# Altium schematic symbol library LimeMicroAltiumLib_schLib.SchLib: 177 symbols (part 6 of 8)
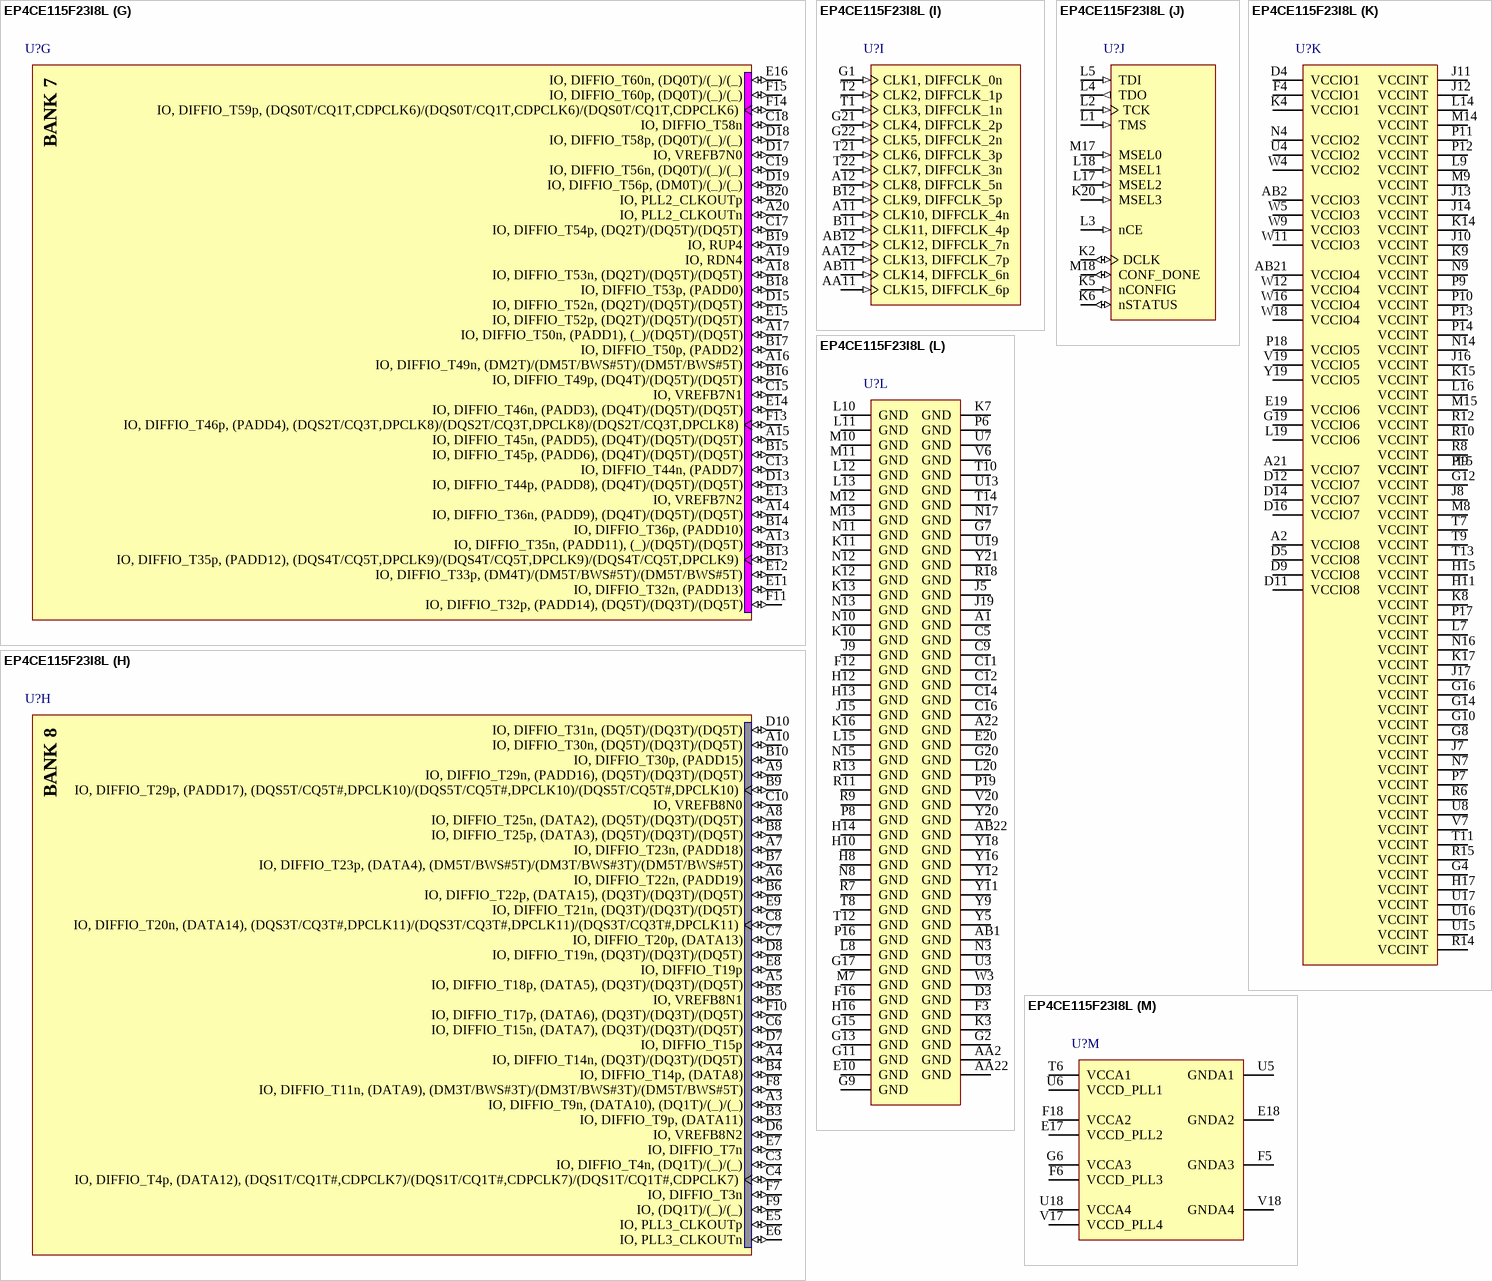
[diagram p40: symbol EP4CE115F23I8L]

## EP4CE115F23I8L
designator U?
Cyclone IV Family FPGA, 1V Core, 280 I/O Pins, 4 PLLs, 484-Pin FBGA, Speed Grade 8, Industrial Grade; Manufacturer: Altera; DatasheetVersion: ver1.6, Nov-2011; PackageVersion: ver1.0, Jun-2011; PackageReference: FBGA484_A-240; PackageDescription: 484-Pin FineLine Ball Grid Array (FBGA) - Wire Bond - A:2.40; Code_JEDEC: MS-034-AAJ-1; ComponentLink1Description: Manufacturer URL; ComponentLink1URL: http://www.altera.com/; ComponentLink2Description: Handbook; ComponentLink2URL: http://www.altera.com/literature/hb/cyclone-iv/cyclone4-handbook.pdf; ComponentLink3Description: Pinout; ComponentLink3URL: http://www.altera.com/literature/lit-dp.jsp?category=cyc%204&showspreadsheet=y; ComponentLink4Description: Package Specification; ComponentLink4URL: http://www.altera.com/devicepackaging/04R00247-02.pdf
footprint ALTR-FBGA484_A-200 (BGA, 484-Balls, Body 23x23mm, Pitch 1mm)
part A pins: B1 IO, DIFFIO_L2n, (DQ2L)/(DQ1L)/(DQ1L) (io), B2 IO, DIFFIO_L2p, (DQ2L)/(DQ1L)/(DQ1L) (io), C1 IO, DIFFIO_L4n, (DQ2L)/(DQ1L)/(DQ1L) (io), C2 IO, DIFFIO_L4p, (DQS2L/CQ3L,CDPCLK0)/(DQS2L/CQ3L,CDPCLK0)/(DQS2L/CQ3L,CDPCLK0) (io), D1 IO, DIFFIO_L5n, (DATA1,ASDO) (io), D2 IO, DIFFIO_L5p, (DQ2L)/(DQ1L)/(DQ1L) (io), E1 IO, DIFFIO_L8n, (_)/(DQ1L)/(DQ1L) (io), E2 IO, DIFFIO_L8p, (FLASH_nCE,nCSO) (io), E3 IO, DIFFIO_L3n, (DQ2L)/(DQ1L)/(DQ1L) (io), E4 IO, DIFFIO_L3p, (nRESET), (DQ2L)/(DQ1L)/(DQ1L) (io), F1 IO, DIFFIO_L9n, (DQ0L)/(DQ1L)/(DQ1L) (io), F2 IO, DIFFIO_L9p, (DM2L)/(DM1L/BWS#1L)/(DM1L/BWS#1L) (io), G3 IO, DIFFIO_L1n, (DQ2L)/(DQ1L)/(DQ1L) (io), G5 IO, VREFB1N0 (io), H1 IO, DIFFIO_L13n (io), H2 IO, DIFFIO_L13p (io), H3 IO, DIFFIO_L7n (io), H4 IO (io), H5 IO, VREFB1N1 (io), H6 IO, DIFFIO_L6p, (DQ2L)/(DQ1L)/(DQ1L) (io), H7 IO, DIFFIO_L1p (io), J1 IO, DIFFIO_L23n, (DQ0L)/(DQ1L)/(DQ1L) (io), J2 IO, DIFFIO_L23p (io), J3 IO, VREFB1N2 (io), J4 IO, DIFFIO_L12p, (DQS0L/CQ1L,DPCLK0)/(DQS0L/CQ1L,DPCLK0)/(DQS0L/CQ1L,DPCLK0) (io), J6 IO, DIFFIO_L6n (io), K1 IO, (DATA0) (io)
part B pins: AA1 IO, DIFFIO_L40n (io), L6 IO, DIFFIO_L25p, (DQ0L)/(DQ1L)/(DQ1L) (io), M1 IO, DIFFIO_L27n (io), M2 IO, DIFFIO_L27p, (DM0L)/(DM1L/BWS#1L)/(DM1L/BWS#1L) (io), M3 IO, DIFFIO_L28n, (DQ1L)/(DQ3L)/(DQ1L) (io), M4 IO, DIFFIO_L28p, (DQ1L)/(DQ3L)/(DQ1L) (io), M5 IO, VREFB2N0 (io), M6 IO, DIFFIO_L25n, (_)/(DQ1L)/(DQ1L) (io), N1 IO, DIFFIO_L29n (io), N2 IO, DIFFIO_L29p, (DQ1L)/(DQ3L)/(DQ1L) (io), N5 IO, DIFFIO_L32n, (DQ1L)/(DQ3L)/(DQ1L) (io), N6 IO, DIFFIO_L36n (io), P1 IO, DIFFIO_L30n, (DQ1L)/(DQ3L)/(DQ1L) (io), P2 IO, DIFFIO_L30p (io), P3 IO, DIFFIO_L33n (io), P4 IO, DIFFIO_L33p, (DQS1L/CQ1L#,DPCLK1)/(DQS1L/CQ1L#,DPCLK1)/(DQS1L/CQ1L#,DPCLK1) (io), P5 IO, DIFFIO_L36p, (DQ3L)/(DQ3L)/(DQ1L) (io), R1 IO, DIFFIO_L31n (io), R2 IO, DIFFIO_L31p, (DQ1L)/(DQ3L)/(DQ1L) (io), R3 IO, DIFFIO_L37n, (DQ3L)/(DQ3L)/(DQ1L) (io), R4 IO, DIFFIO_L37p, (DQ3L)/(DQ3L)/(DQ1L) (io), R5 IO, VREFB2N2 (io), T3 IO, VREFB2N1 (io), T4 IO, DIFFIO_L48p, (DQS3L/CQ3L#,CDPCLK1)/(DQS3L/CQ3L#,CDPCLK1)/(DQS3L/CQ3L#,CDPCLK1) (io), T5 IO, DIFFIO_L48n, (DM3L/BWS#3L)/(DM3L/BWS#3L)/(DM1L/BWS#1L) (io), U1 IO, DIFFIO_L34n, (DM1L/BWS#1L)/(DM3L/BWS#3L)/(DM1L/BWS#1L) (io), U2 IO, DIFFIO_L34p, (DQ1L)/(DQ3L)/(DQ1L) (io), V1 IO, DIFFIO_L35n (io), V2 IO, DIFFIO_L35p, (DQ3L)/(DQ3L)/(DQ1L) (io), V3 IO, RDN1 (io), V4 IO, RUP1 (io), W1 IO, DIFFIO_L38n (io), W2 IO, DIFFIO_L38p, (DQ3L)/(DQ3L)/(DQ1L) (io), Y1 IO, DIFFIO_L39n (io), Y2 IO, DIFFIO_L39p, (DQ3L)/(DQ3L)/(DQ1L) (io)
part C pins: AA3 IO, PLL_1CLKOUTp (io), AA4 IO, (DQ1B)/(_)/(_) (io), AA5 IO, DIFFIO_B5p (io), AA6 IO, DIFFIO_B7n, (DQ1B)/(_)/(_) (io), AA7 IO, DIFFIO_B14p (io), AA8 IO, DIFFIO_B17p, (DQ5B)/(DQ3B)/(DQ5B) (io), AA9 IO, DIFFIO_B18p, (DQ5B)/(DQ3B)/(DQ5B) (io), AA10 IO, DIFFIO_B24p (io), AB3 IO, PLL_1CLKOUTn (io), AB4 IO, VREFB3N2 (io), AB5 IO, DIFFIO_B8n (io), AB6 IO, DIFFIO_B8p, (DM3B/BWS#3B)/(DM3B/BWS#3B)/(DM5B/BWS#5B) (io), AB7 IO, DIFFIO_B14n, (DM5B/BWS#5B)/(DM3B/BWS#3B)/(DM5B/BWS#5B) (io), AB8 IO, DIFFIO_B17n (io), AB9 IO, DIFFIO_B18n, (DQS5B/CQ5B#,DPCLK3)/(DQS5B/CQ5B#,DPCLK3)/(DQS5B/CQ5B#,DPCLK3) (io), AB10 IO, DIFFIO_B24n (io), U9 IO, DIFFIO_B12n, (DQ3B)/(DQ3B)/(DQ5B) (io), U10 IO, DIFFIO_B15n, (DQ5B)/(DQ3B)/(DQ5B) (io), U11 IO, VREFB3N0 (io), V5 IO, DIFFIO_B1n, (DM1B)/(_)/(_) (io), V8 IO, DIFFIO_B13p (io), V9 IO, VREFB3N1 (io), V10 IO, DIFFIO_B15p, (DQS3B/CQ3B#,DPCLK2)/(DQS3B/CQ3B#,DPCLK2)/(DQS3B/CQ3B#,DPCLK2) (io), V11 IO (io), W6 IO, DIFFIO_B4p, (DQ1B)/(_)/(_) (io), W7 IO, DIFFIO_B9p, (DQ3B)/(DQ3B)/(DQ5B) (io), W8 IO, DIFFIO_B13n, (DQ3B)/(DQ3B)/(DQ5B) (io), W10 IO, DIFFIO_B23p (io), Y3 IO, DIFFIO_B3n, (DQ1B)/(_)/(_) (io), Y4 IO, DIFFIO_B3p (io), Y6 IO, (DQS1B/CQ1B#,CDPCLK2)/(DQS1B/CQ1B#,CDPCLK2)/(DQS1B/CQ1B#,CDPCLK2) (io), Y7 IO, DIFFIO_B9n, (DQ3B)/(DQ3B)/(DQ5B) (io), Y8 IO, (DQ5B)/(DQ3B)/(DQ5B) (io), Y10 IO, DIFFIO_B23n (io)
part D pins: AA13 IO, DIFFIO_B32p, (_)/(DQ5B)/(DQ5B) (io), AA14 IO, DIFFIO_B35p (io), AA15 IO, DIFFIO_B37p, (DQ4B)/(DQ5B)/(DQ5B) (io), AA16 IO, DIFFIO_B40p, (DQ2B)/(DQ5B)/(DQ5B) (io), AA17 IO, DIFFIO_B47p, (DQ0B)/(_)/(_) (io), AA18 IO, VREFB4N1 (io), AA19 IO, RUP2 (io), AA20 IO, DIFFIO_B49p (io), AB13 IO, DIFFIO_B32n, (DQ4B)/(DQ5B)/(DQ5B) (io), AB14 IO, DIFFIO_B35n, (DQ4B)/(DQ5B)/(DQ5B) (io), AB15 IO, DIFFIO_B37n, (DQ4B)/(DQ5B)/(DQ5B) (io), AB16 IO, DIFFIO_B40n, (DQ2B)/(DQ5B)/(DQ5B) (io), AB17 IO, DIFFIO_B47n (io), AB18 IO, (DQ0B)/(_)/(_) (io), AB19 IO, RDN2 (io), AB20 IO, DIFFIO_B49n, (DQ0B)/(_)/(_) (io), R16 IO, PLL4_CLKOUTn (io), T15 IO, DIFFIO_B46n, (DQ0B)/(_)/(_) (io), T16 IO, PLL4_CLKOUTp (io), U12 IO, DIFFIO_B38p (io), U14 IO, DIFFIO_B44p, (DQ2B)/(DQ5B)/(DQ5B) (io), V12 IO, VREFB4N2 (io), V13 IO, DIFFIO_B41p, (DQS2B/CQ3B,DPCLK5)/(DQS2B/CQ3B,DPCLK5)/(DQS2B/CQ3B,DPCLK5) (io), V14 IO, DIFFIO_B43p (io), V15 IO, DIFFIO_B44n (io), V16 IO, VREFB4N0 (io), W13 IO, DIFFIO_B36p, (DQ4B)/(DQ5B)/(DQ5B) (io), W14 IO, DIFFIO_B41n (io), W15 IO, DIFFIO_B45p, (DQ2B)/(DQ5B)/(DQ5B) (io), W17 IO, DIFFIO_B48p, (DQ0B)/(_)/(_) (io), Y13 IO, DIFFIO_B36n, (DQS4B/CQ5B,DPCLK4)/(DQS4B/CQ5B,DPCLK4)/(DQS4B/CQ5B,DPCLK4) (io), Y14 IO, DIFFIO_B39p (io), Y15 IO, DIFFIO_B39n, (DQ2B)/(DQ5B)/(DQ5B) (io), Y17 IO, DIFFIO_B48n, (DQS0B/CQ1B,CDPCLK3)/(DQS0B/CQ1B,CDPCLK3)/(DQS0B/CQ1B,CDPCLK3) (io)
part E pins: AA21 IO, DIFFIO_R51p (io), M16 IO, DIFFIO_R48p (io), M19 IO, DIFFIO_R27p, (_)/(DQ1R)/(DQ1R) (io), M20 IO, DIFFIO_R27n, (DM0R)/(DM1R/BWS#1R)/(DM1R/BWS#1R) (io), M21 IO, DIFFIO_R28p (io), M22 IO, DIFFIO_R28n, (DQ1R)/(DQ3R)/(DQ1R) (io), N18 IO, DIFFIO_R30p, (DQS1R/CQ1R#,DPCLK6)/(DQS1R/CQ1R#,DPCLK6)/(DQS1R/CQ1R#,DPCLK6) (io), N19 IO, VREFB5N0 (io), N20 IO, DIFFIO_R33n (io), N21 IO, DIFFIO_R29p, (DEV_CLRn) (io), N22 IO, DIFFIO_R29n, (DEV_OE) (io), P20 IO, VREFB5N1 (io), P21 IO, DIFFIO_R36p (io), P22 IO, DIFFIO_R36n (io), R17 IO, DIFFIO_R49p (io), R19 IO, DIFFIO_R40p (io), R20 IO, DIFFIO_R42n, (DM1R/BWS#1R)/(DM3R/BWS#3R)/(DM1R/BWS#1R) (io), R21 IO, DIFFIO_R38p (io), R22 IO, DIFFIO_R38n, (DQ1R)/(DQ3R)/(DQ1R) (io), T17 IO, RUP3 (io), T18 IO, RDN3 (io), T19 IO, DIFFIO_R45p, (DQ3R)/(DQ3R)/(DQ1R) (io), T20 IO, DIFFIO_R45n, (DQ3R)/(DQ3R)/(DQ1R) (io), U20 IO, DIFFIO_R48n, (DQ3R)/(DQ3R)/(DQ1R) (io), U21 IO, DIFFIO_R41p (io), U22 IO, DIFFIO_R41n, (DQ1R)/(DQ3R)/(DQ1R) (io), V21 IO, DIFFIO_R43p (io), V22 IO, DIFFIO_R43n, (DQ3R)/(DQ3R)/(DQ1R) (io), W19 IO, VREFB5N2 (io), W20 IO, DIFFIO_R50n, (DQS3R/CQ3R#,CDPCLK4)/(DQS3R/CQ3R#,CDPCLK4)/(DQS3R/CQ3R#,CDPCLK4) (io), W21 IO, DIFFIO_R46p (io), W22 IO, DIFFIO_R46n, (DQ3R)/(DQ3R)/(DQ1R) (io), Y22 IO, DIFFIO_R49n, (DQ3R)/(DQ3R)/(DQ1R) (io)
part F pins: B21 IO, DIFFIO_R9p, (PADD21), (DQ2R)/(DQ1R)/(DQ1R) (io), B22 IO, DIFFIO_R9n, (PADD22) (io), C20 IO, DIFFIO_R8n, (PADD20), (DQS2R/CQ3R,CDPCLK5)/(DQS2R/CQ3R,CDPCLK5)/(DQS2R/CQ3R,CDPCLK5) (io), C21 IO, DIFFIO_R10p, (DQ2R)/(DQ1R)/(DQ1R) (io), C22 IO, DIFFIO_R10n (io), D20 IO, VREFB6N0 (io), D21 IO, DIFFIO_R14p (io), D22 IO, DIFFIO_R14n, (DQ2R)/(DQ1R)/(DQ1R) (io), E21 IO, DIFFIO_R15p, (nOE), (DQ2R)/(DQ1R)/(DQ1R) (io), E22 IO, DIFFIO_R15n, (nWE), (DQ2R)/(DQ1R)/(DQ1R) (io), F17 IO, DIFFIO_R2n (io), F19 IO, DIFFIO_R13p (io), F20 IO, DIFFIO_R13n, (nAVD), (DQ2R)/(DQ1R)/(DQ1R) (io), F21 IO, DIFFIO_R18p (io), F22 IO, DIFFIO_R18n, (DQ0R)/(DQ1R)/(DQ1R) (io), G18 IO, DIFFIO_R12n, (PADD23), (DQ2R)/(DQ1R)/(DQ1R) (io), H18 IO, VREFB6N1 (io), H19 IO, DIFFIO_R16p, (_)/(DQ1R)/(DQ1R) (io), H20 IO, DIFFIO_R16n (io), H21 IO, DIFFIO_R21p, (DQ0R)/(DQ1R)/(DQ1R) (io), H22 IO, DIFFIO_R21n, (DQ0R)/(DQ1R)/(DQ1R) (io), J18 IO, DIFFIO_R20p (io), J20 IO, DIFFIO_R17n, (DQ0R)/(DQ1R)/(DQ1R) (io), J21 IO, DIFFIO_R22p (io), J22 IO, DIFFIO_R22n, (DQS0R/CQ1R,DPCLK7)/(DQS0R/CQ1R,DPCLK7)/(DQS0R/CQ1R,DPCLK7) (io), K18 IO, DIFFIO_R20n, (DQ0R)/(DQ1R)/(DQ1R) (io), K19 IO, VREFB6N2 (io), K21 IO, DIFFIO_R23p, (CLKUSR) (io), K22 IO, DIFFIO_R23n, (nCEO) (io), L21 IO, DIFFIO_R24p, (CRC_ERROR) (io), L22 IO, DIFFIO_R24n, (INIT_DONE) (io)
part G pins: A13 IO, DIFFIO_T35n, (PADD11), (_)/(DQ5T)/(DQ5T) (io), A14 IO, DIFFIO_T36n, (PADD9), (DQ4T)/(DQ5T)/(DQ5T) (io), A15 IO, DIFFIO_T45n, (PADD5), (DQ4T)/(DQ5T)/(DQ5T) (io), A16 IO, DIFFIO_T49n, (DM2T)/(DM5T/BWS#5T)/(DM5T/BWS#5T) (io), A17 IO, DIFFIO_T50n, (PADD1), (_)/(DQ5T)/(DQ5T) (io), A18 IO, DIFFIO_T53n, (DQ2T)/(DQ5T)/(DQ5T) (io), A19 IO, RDN4 (io), A20 IO, PLL2_CLKOUTn (io), B13 IO, DIFFIO_T35p, (PADD12), (DQS4T/CQ5T,DPCLK9)/(DQS4T/CQ5T,DPCLK9)/(DQS4T/CQ5T,DPCLK9) (io), B14 IO, DIFFIO_T36p, (PADD10) (io), B15 IO, DIFFIO_T45p, (PADD6), (DQ4T)/(DQ5T)/(DQ5T) (io), B16 IO, DIFFIO_T49p, (DQ4T)/(DQ5T)/(DQ5T) (io), B17 IO, DIFFIO_T50p, (PADD2) (io), B18 IO, DIFFIO_T53p, (PADD0) (io), B19 IO, RUP4 (io), B20 IO, PLL2_CLKOUTp (io), C13 IO, DIFFIO_T44n, (PADD7) (io), C15 IO, VREFB7N1 (io), C17 IO, DIFFIO_T54p, (DQ2T)/(DQ5T)/(DQ5T) (io), C18 IO, DIFFIO_T58n (io), C19 IO, DIFFIO_T56n, (DQ0T)/(_)/(_) (io), D13 IO, DIFFIO_T44p, (PADD8), (DQ4T)/(DQ5T)/(DQ5T) (io), D15 IO, DIFFIO_T52n, (DQ2T)/(DQ5T)/(DQ5T) (io), D17 IO, VREFB7N0 (io), D18 IO, DIFFIO_T58p, (DQ0T)/(_)/(_) (io), D19 IO, DIFFIO_T56p, (DM0T)/(_)/(_) (io), E11 IO, DIFFIO_T32n, (PADD13) (io), E12 IO, DIFFIO_T33p, (DM4T)/(DM5T/BWS#5T)/(DM5T/BWS#5T) (io), E13 IO, VREFB7N2 (io), E14 IO, DIFFIO_T46n, (PADD3), (DQ4T)/(DQ5T)/(DQ5T) (io), E15 IO, DIFFIO_T52p, (DQ2T)/(DQ5T)/(DQ5T) (io), E16 IO, DIFFIO_T60n, (DQ0T)/(_)/(_) (io), F11 IO, DIFFIO_T32p, (PADD14), (DQ5T)/(DQ3T)/(DQ5T) (io), F13 IO, DIFFIO_T46p, (PADD4), (DQS2T/CQ3T,DPCLK8)/(DQS2T/CQ3T,DPCLK8)/(DQS2T/CQ3T,DPCLK8) (io), F14 IO, DIFFIO_T59p, (DQS0T/CQ1T,CDPCLK6)/(DQS0T/CQ1T,CDPCLK6)/(DQS0T/CQ1T,CDPCLK6) (io), F15 IO, DIFFIO_T60p, (DQ0T)/(_)/(_) (io)
part H pins: A3 IO, DIFFIO_T9n, (DATA10), (DQ1T)/(_)/(_) (io), A4 IO, DIFFIO_T14n, (DQ3T)/(DQ3T)/(DQ5T) (io), A5 IO, DIFFIO_T18p, (DATA5), (DQ3T)/(DQ3T)/(DQ5T) (io), A6 IO, DIFFIO_T22n, (PADD19) (io), A7 IO, DIFFIO_T23n, (PADD18) (io), A8 IO, DIFFIO_T25n, (DATA2), (DQ5T)/(DQ3T)/(DQ5T) (io), A9 IO, DIFFIO_T29n, (PADD16), (DQ5T)/(DQ3T)/(DQ5T) (io), A10 IO, DIFFIO_T30n, (DQ5T)/(DQ3T)/(DQ5T) (io), B3 IO, DIFFIO_T9p, (DATA11) (io), B4 IO, DIFFIO_T14p, (DATA8) (io), B5 IO, VREFB8N1 (io), B6 IO, DIFFIO_T22p, (DATA15), (DQ3T)/(DQ3T)/(DQ5T) (io), B7 IO, DIFFIO_T23p, (DATA4), (DM5T/BWS#5T)/(DM3T/BWS#3T)/(DM5T/BWS#5T) (io), B8 IO, DIFFIO_T25p, (DATA3), (DQ5T)/(DQ3T)/(DQ5T) (io), B9 IO, DIFFIO_T29p, (PADD17), (DQS5T/CQ5T#,DPCLK10)/(DQS5T/CQ5T#,DPCLK10)/(DQS5T/CQ5T#,DPCLK10) (io), B10 IO, DIFFIO_T30p, (PADD15) (io), C3 IO, DIFFIO_T4n, (DQ1T)/(_)/(_) (io), C4 IO, DIFFIO_T4p, (DATA12), (DQS1T/CQ1T#,CDPCLK7)/(DQS1T/CQ1T#,CDPCLK7)/(DQS1T/CQ1T#,CDPCLK7) (io), C6 IO, DIFFIO_T15n, (DATA7), (DQ3T)/(DQ3T)/(DQ5T) (io), C7 IO, DIFFIO_T20p, (DATA13) (io), C8 IO, DIFFIO_T20n, (DATA14), (DQS3T/CQ3T#,DPCLK11)/(DQS3T/CQ3T#,DPCLK11)/(DQS3T/CQ3T#,DPCLK11) (io), C10 IO, VREFB8N0 (io), D6 IO, VREFB8N2 (io), D7 IO, DIFFIO_T15p (io), D8 IO, DIFFIO_T19n, (DQ3T)/(DQ3T)/(DQ5T) (io), D10 IO, DIFFIO_T31n, (DQ5T)/(DQ3T)/(DQ5T) (io), E5 IO, PLL3_CLKOUTp (io), E6 IO, PLL3_CLKOUTn (io), E7 IO, DIFFIO_T7n (io), E8 IO, DIFFIO_T19p (io), E9 IO, DIFFIO_T21n, (DQ3T)/(DQ3T)/(DQ5T) (io), F7 IO, DIFFIO_T3n (io), F8 IO, DIFFIO_T11n, (DATA9), (DM3T/BWS#3T)/(DM3T/BWS#3T)/(DM5T/BWS#5T) (io), F9 IO, (DQ1T)/(_)/(_) (io), F10 IO, DIFFIO_T17p, (DATA6), (DQ3T)/(DQ3T)/(DQ5T) (io)
part I pins: A11 CLK10, DIFFCLK_4n (in), A12 CLK8, DIFFCLK_5n (in), AA11 CLK15, DIFFCLK_6p (in), AA12 CLK13, DIFFCLK_7p (in), AB11 CLK14, DIFFCLK_6n (in), AB12 CLK12, DIFFCLK_7n (in), B11 CLK11, DIFFCLK_4p (in), B12 CLK9, DIFFCLK_5p (in), G1 CLK1, DIFFCLK_0n (in), G21 CLK4, DIFFCLK_2p (in), G22 CLK5, DIFFCLK_2n (in), T1 CLK3, DIFFCLK_1n (in), T2 CLK2, DIFFCLK_1p (in), T21 CLK6, DIFFCLK_3p (in), T22 CLK7, DIFFCLK_3n (in)
part J pins: K2 DCLK (io), K5 nCONFIG (in), K6 nSTATUS (io), K20 MSEL3 (in), L1 TMS (in), L2 TCK (in), L3 nCE (in), L4 TDO (out), L5 TDI (in), L17 MSEL2 (in), L18 MSEL1 (in), M17 MSEL0 (in), M18 CONF_DONE (io)
part K pins: A2 VCCIO8 (power), A21 VCCIO7 (power), AB2 VCCIO3 (power), AB21 VCCIO4 (power), D4 VCCIO1 (power), D5 VCCIO8 (power), D9 VCCIO8 (power), D11 VCCIO8 (power), D12 VCCIO7 (power), D14 VCCIO7 (power), D16 VCCIO7 (power), E19 VCCIO6 (power), F4 VCCIO1 (power), G4 VCCINT (power), G8 VCCINT (power), G10 VCCINT (power), G12 VCCINT (power), G14 VCCINT (power), G16 VCCINT (power), G19 VCCIO6 (power), H9 VCCINT (power), H11 VCCINT (power), H15 VCCINT (power), H17 VCCINT (power), J7 VCCINT (power), J8 VCCINT (power), J10 VCCINT (power), J11 VCCINT (power), J12 VCCINT (power), J13 VCCINT (power), J14 VCCINT (power), J16 VCCINT (power), J17 VCCINT (power), K4 VCCIO1 (power), K8 VCCINT (power), K9 VCCINT (power), K14 VCCINT (power), K15 VCCINT (power), K17 VCCINT (power), L7 VCCINT (power), L9 VCCINT (power), L14 VCCINT (power), L16 VCCINT (power), L19 VCCIO6 (power), M8 VCCINT (power), M9 VCCINT (power), M14 VCCINT (power), M15 VCCINT (power), N4 VCCIO2 (power), N7 VCCINT (power), N9 VCCINT (power), N14 VCCINT (power), N16 VCCINT (power), P7 VCCINT (power), P9 VCCINT (power), P10 VCCINT (power), P11 VCCINT (power), P12 VCCINT (power), P13 VCCINT (power), P14 VCCINT (power), P15 VCCINT (power), P17 VCCINT (power), P18 VCCIO5 (power), R6 VCCINT (power), R8 VCCINT (power), R10 VCCINT (power), R12 VCCINT (power), R14 VCCINT (power), R15 VCCINT (power), T7 VCCINT (power), T9 VCCINT (power), T11 VCCINT (power), T13 VCCINT (power), U4 VCCIO2 (power), U8 VCCINT (power), U15 VCCINT (power), U16 VCCINT (power), U17 VCCINT (power), V7 VCCINT (power), V19 VCCIO5 (power), W4 VCCIO2 (power), W5 VCCIO3 (power), W9 VCCIO3 (power), W11 VCCIO3 (power), W12 VCCIO4 (power), W16 VCCIO4 (power), W18 VCCIO4 (power), Y19 VCCIO5 (power)
part L pins: A1 GND (power), A22 GND (power), AA2 GND (power), AA22 GND (power), AB1 GND (power), AB22 GND (power), C5 GND (power), C9 GND (power), C11 GND (power), C12 GND (power), C14 GND (power), C16 GND (power), D3 GND (power), E10 GND (power), E20 GND (power), F3 GND (power), F12 GND (power), F16 GND (power), G2 GND (power), G7 GND (power), G9 GND (power), G11 GND (power), G13 GND (power), G15 GND (power), G17 GND (power), G20 GND (power), H8 GND (power), H10 GND (power), H12 GND (power), H13 GND (power), H14 GND (power), H16 GND (power), J5 GND (power), J9 GND (power), J15 GND (power), J19 GND (power), K3 GND (power), K7 GND (power), K10 GND (power), K11 GND (power), K12 GND (power), K13 GND (power), K16 GND (power), L8 GND (power), L10 GND (power), L11 GND (power), L12 GND (power), L13 GND (power), L15 GND (power), L20 GND (power), M7 GND (power), M10 GND (power), M11 GND (power), M12 GND (power), M13 GND (power), N3 GND (power), N8 GND (power), N10 GND (power), N11 GND (power), N12 GND (power), N13 GND (power), N15 GND (power), N17 GND (power), P6 GND (power), P8 GND (power), P16 GND (power), P19 GND (power), R7 GND (power), R9 GND (power), R11 GND (power), R13 GND (power), R18 GND (power), T8 GND (power), T10 GND (power), T12 GND (power), T14 GND (power), U3 GND (power), U7 GND (power), U13 GND (power), U19 GND (power), V6 GND (power), V20 GND (power), W3 GND (power), Y5 GND (power), Y9 GND (power), Y11 GND (power), Y12 GND (power), Y16 GND (power), Y18 GND (power), Y20 GND (power), Y21 GND (power)
part M pins: E17 VCCD_PLL2 (power), E18 GNDA2 (power), F5 GNDA3 (power), F6 VCCD_PLL3 (power), F18 VCCA2 (power), G6 VCCA3 (power), T6 VCCA1 (power), U5 GNDA1 (power), U6 VCCD_PLL1 (power), U18 VCCA4 (power), V17 VCCD_PLL4 (power), V18 GNDA4 (power)
part A text: BANK 1
part B text: BANK 2
part C text: BANK 3
part D text: BANK 4
part E text: BANK 5
part F text: BANK 6
part G text: BANK 7
part H text: BANK 8

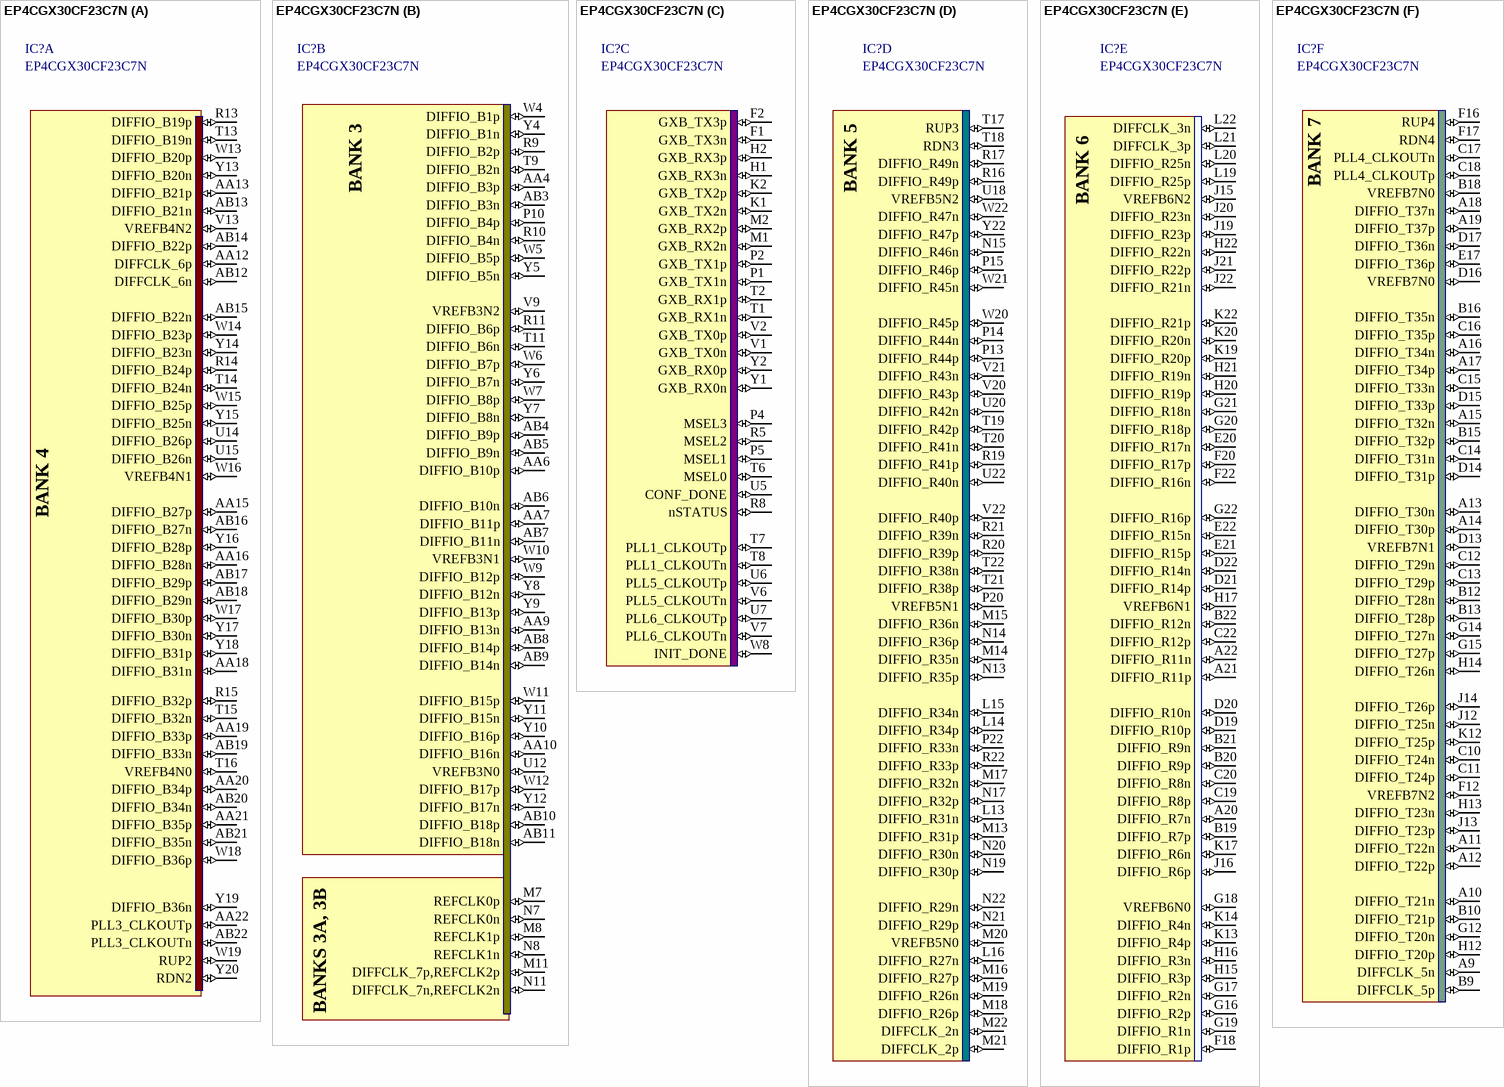
[diagram p27: symbol EP4CGX30CF23C7N]

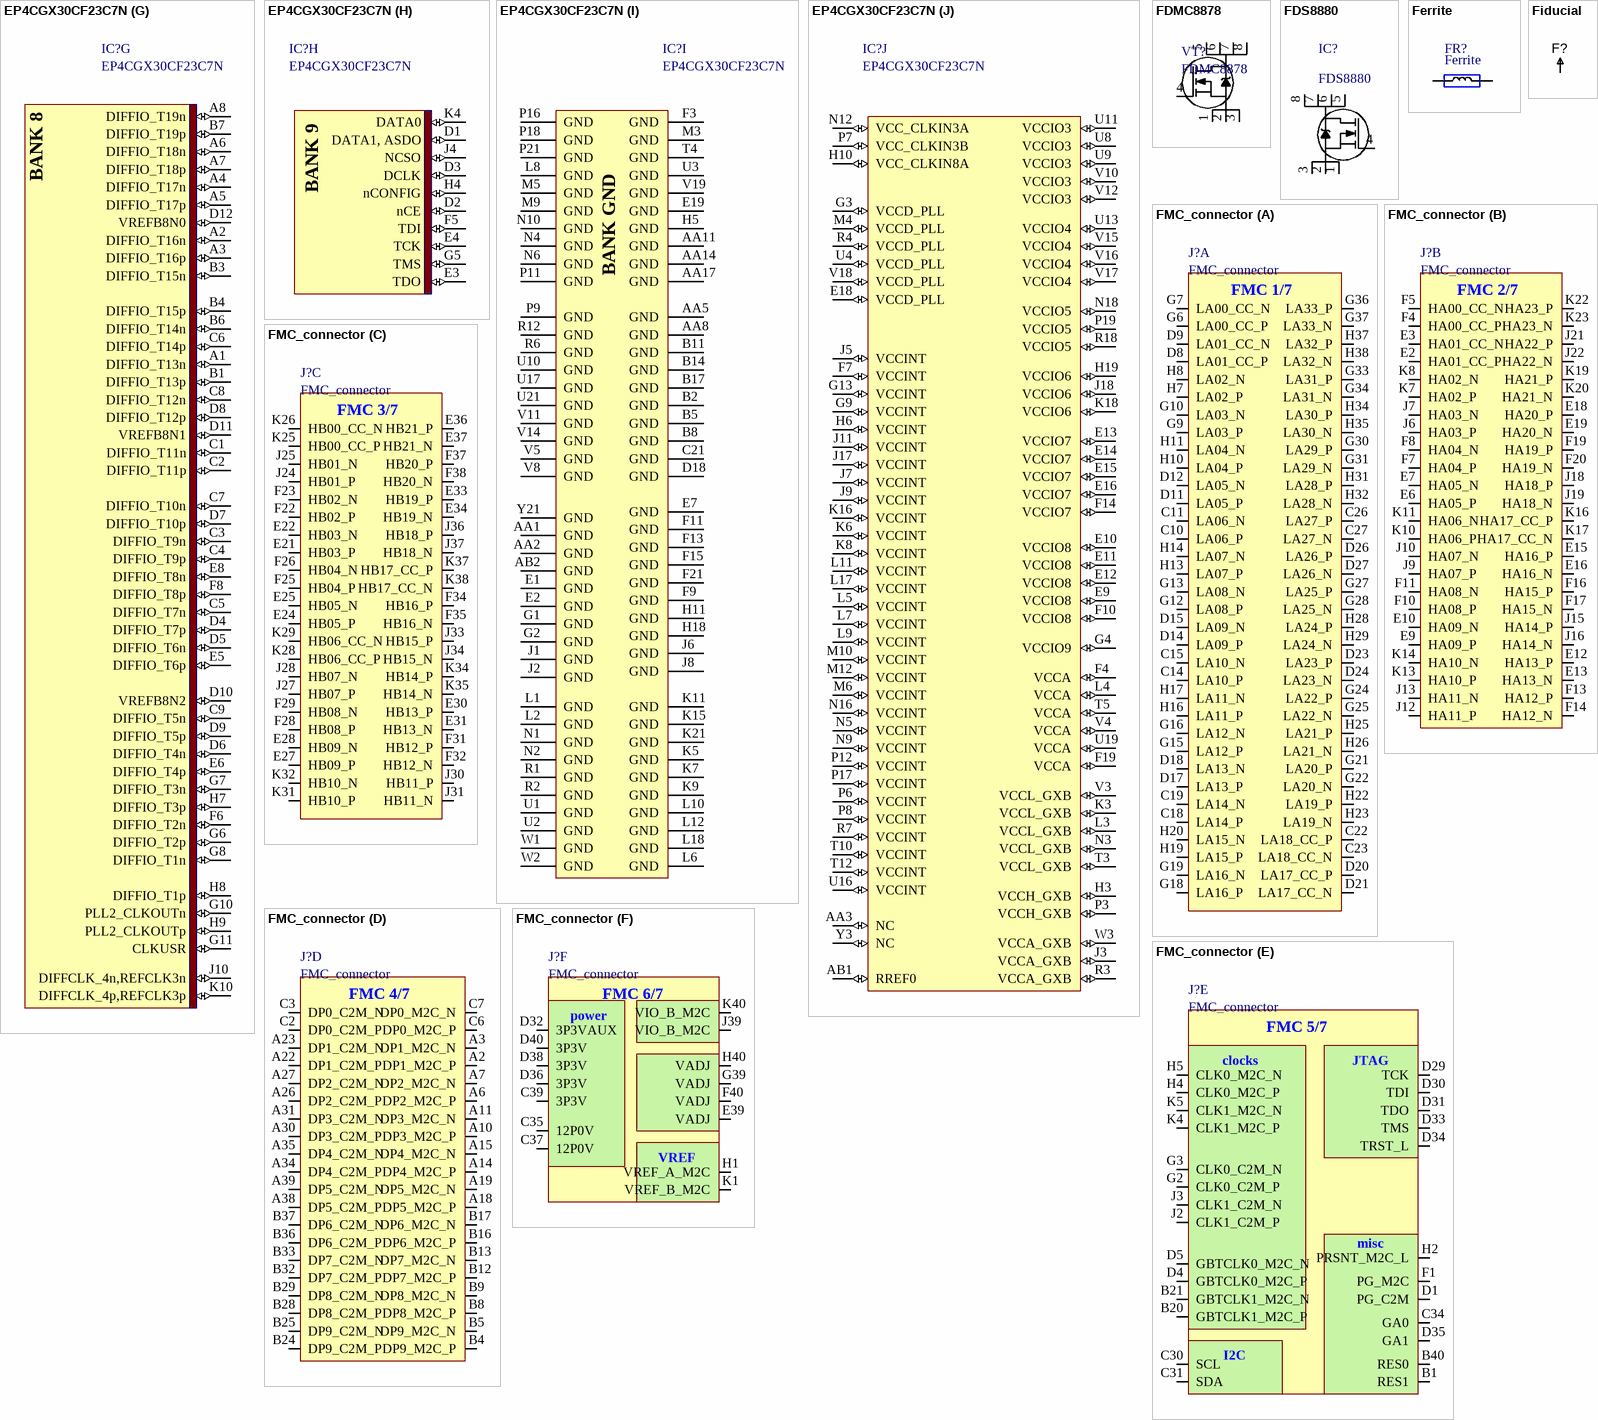
[diagram p28: symbols EP4CGX30CF23C7N to FMC_connector]

## EP4CGX30CF23C7N
designator IC?
Manufacturer: Altera; Voltage - Supply: 1.16 V ~ 1.24 V; Number of I/O: 290; Total RAM Bits: 1105920; Number of Logic Elements/Cells: 29440; Number of LABs/CLBs: 1840; Supplier 1: Digi-Key; Package / Case: 484-BGA; Operating Temperature: 0°C ~ 85°C; Mounting Type: Surface Mount; Number of Gates: -; Supplier Device Package: 484-FBGA (23x23); Category: Integrated Circuits (ICs); Manufacturer Part Number 1: EP4CGX30CF23C7N; RoHS: RoHS Compliant; Supplier Part Number 1: 544-2730-ND
footprint ALTR-FBGA484_A-200 (BGA, 484-Balls, Body 23x23mm, Pitch 1mm)
part A pins: AA12 DIFFCLK_6p (io), AA13 DIFFIO_B21p (io), AA15 DIFFIO_B27p (io), AA16 DIFFIO_B28n (io), AA18 DIFFIO_B31n (io), AA19 DIFFIO_B33p (io), AA20 DIFFIO_B34p (io), AA21 DIFFIO_B35p (io), AA22 PLL3_CLKOUTp (io), AB12 DIFFCLK_6n (io), AB13 DIFFIO_B21n (io), AB14 DIFFIO_B22p (io), AB15 DIFFIO_B22n (io), AB16 DIFFIO_B27n (io), AB17 DIFFIO_B29p (io), AB18 DIFFIO_B29n (io), AB19 DIFFIO_B33n (io), AB20 DIFFIO_B34n (io), AB21 DIFFIO_B35n (io), AB22 PLL3_CLKOUTn (io), R13 DIFFIO_B19p (io), R14 DIFFIO_B24p (io), R15 DIFFIO_B32p (io), T13 DIFFIO_B19n (io), T14 DIFFIO_B24n (io), T15 DIFFIO_B32n (io), T16 VREFB4N0 (io), U14 DIFFIO_B26p (io), U15 DIFFIO_B26n (io), V13 VREFB4N2 (io), W13 DIFFIO_B20p (io), W14 DIFFIO_B23p (io), W15 DIFFIO_B25p (io), W16 VREFB4N1 (io), W17 DIFFIO_B30p (io), W18 DIFFIO_B36p (io), W19 RUP2 (io), Y13 DIFFIO_B20n (io), Y14 DIFFIO_B23n (io), Y15 DIFFIO_B25n (io), Y16 DIFFIO_B28p (io), Y17 DIFFIO_B30n (io), Y18 DIFFIO_B31p (io), Y19 DIFFIO_B36n (io), Y20 RDN2 (io)
part B pins: AA4 DIFFIO_B3p (io), AA6 DIFFIO_B10p (io), AA7 DIFFIO_B11p (io), AA9 DIFFIO_B13n (io), AA10 DIFFIO_B16n (io), AB3 DIFFIO_B3n (io), AB4 DIFFIO_B9p (io), AB5 DIFFIO_B9n (io), AB6 DIFFIO_B10n (io), AB7 DIFFIO_B11n (io), AB8 DIFFIO_B14p (io), AB9 DIFFIO_B14n (io), AB10 DIFFIO_B18p (io), AB11 DIFFIO_B18n (io), M7 REFCLK0p (io), M8 REFCLK1p (io), M11 DIFFCLK_7p,REFCLK2p (io), N7 REFCLK0n (io), N8 REFCLK1n (io), N11 DIFFCLK_7n,REFCLK2n (io), P10 DIFFIO_B4p (io), R9 DIFFIO_B2p (io), R10 DIFFIO_B4n (io), R11 DIFFIO_B6p (io), T9 DIFFIO_B2n (io), T11 DIFFIO_B6n (io), U12 VREFB3N0 (io), V9 VREFB3N2 (io), W4 DIFFIO_B1p (io), W5 DIFFIO_B5p (io), W6 DIFFIO_B7p (io), W7 DIFFIO_B8p (io), W9 DIFFIO_B12p (io), W10 VREFB3N1 (io), W11 DIFFIO_B15p (io), W12 DIFFIO_B17p (io), Y4 DIFFIO_B1n (io), Y5 DIFFIO_B5n (io), Y6 DIFFIO_B7n (io), Y7 DIFFIO_B8n (io), Y8 DIFFIO_B12n (io), Y9 DIFFIO_B13p (io), Y10 DIFFIO_B16p (io), Y11 DIFFIO_B15n (io), Y12 DIFFIO_B17n (io)
part C pins: F1 GXB_TX3n (io), F2 GXB_TX3p (io), H1 GXB_RX3n (io), H2 GXB_RX3p (io), K1 GXB_TX2n (io), K2 GXB_TX2p (io), M1 GXB_RX2n (io), M2 GXB_RX2p (io), P1 GXB_TX1n (io), P2 GXB_TX1p (io), P4 MSEL3 (io), P5 MSEL1 (io), R5 MSEL2 (io), R8 nSTATUS (io), T1 GXB_RX1n (io), T2 GXB_RX1p (io), T6 MSEL0 (io), T7 PLL1_CLKOUTp (io), T8 PLL1_CLKOUTn (io), U5 CONF_DONE (io), U6 PLL5_CLKOUTp (io), U7 PLL6_CLKOUTp (io), V1 GXB_TX0n (io), V2 GXB_TX0p (io), V6 PLL5_CLKOUTn (io), V7 PLL6_CLKOUTn (io), W8 INIT_DONE (io), Y1 GXB_RX0n (io), Y2 GXB_RX0p (io)
part D pins: L13 DIFFIO_R31n (io), L14 DIFFIO_R34p (io), L15 DIFFIO_R34n (io), L16 DIFFIO_R27n (io), M13 DIFFIO_R31p (io), M14 DIFFIO_R35n (io), M15 DIFFIO_R36n (io), M16 DIFFIO_R27p (io), M17 DIFFIO_R32n (io), M18 DIFFIO_R26p (io), M19 DIFFIO_R26n (io), M20 VREFB5N0 (io), M21 DIFFCLK_2p (io), M22 DIFFCLK_2n (io), N13 DIFFIO_R35p (io), N14 DIFFIO_R36p (io), N15 DIFFIO_R46n (io), N17 DIFFIO_R32p (io), N19 DIFFIO_R30p (io), N20 DIFFIO_R30n (io), N21 DIFFIO_R29p (io), N22 DIFFIO_R29n (io), P13 DIFFIO_R44p (io), P14 DIFFIO_R44n (io), P15 DIFFIO_R46p (io), P20 VREFB5N1 (io), P22 DIFFIO_R33n (io), R16 DIFFIO_R49p (io), R17 DIFFIO_R49n (io), R19 DIFFIO_R41p (io), R20 DIFFIO_R39p (io), R21 DIFFIO_R39n (io), R22 DIFFIO_R33p (io), T17 RUP3 (io), T18 RDN3 (io), T19 DIFFIO_R42p (io), T20 DIFFIO_R41n (io), T21 DIFFIO_R38p (io), T22 DIFFIO_R38n (io), U18 VREFB5N2 (io), U20 DIFFIO_R42n (io), U22 DIFFIO_R40n (io), V20 DIFFIO_R43p (io), V21 DIFFIO_R43n (io), V22 DIFFIO_R40p (io), W20 DIFFIO_R45p (io), W21 DIFFIO_R45n (io), W22 DIFFIO_R47n (io), Y22 DIFFIO_R47p (io)
part E pins: A20 DIFFIO_R7n (io), A21 DIFFIO_R11p (io), A22 DIFFIO_R11n (io), B19 DIFFIO_R7p (io), B20 DIFFIO_R9p (io), B21 DIFFIO_R9n (io), B22 DIFFIO_R12n (io), C19 DIFFIO_R8p (io), C20 DIFFIO_R8n (io), C22 DIFFIO_R12p (io), D19 DIFFIO_R10p (io), D20 DIFFIO_R10n (io), D21 DIFFIO_R14p (io), D22 DIFFIO_R14n (io), E20 DIFFIO_R17n (io), E21 DIFFIO_R15p (io), E22 DIFFIO_R15n (io), F18 DIFFIO_R1p (io), F20 DIFFIO_R17p (io), F22 DIFFIO_R16n (io), G16 DIFFIO_R2p (io), G17 DIFFIO_R2n (io), G18 VREFB6N0 (io), G19 DIFFIO_R1n (io), G20 DIFFIO_R18p (io), G21 DIFFIO_R18n (io), G22 DIFFIO_R16p (io), H15 DIFFIO_R3p (io), H16 DIFFIO_R3n (io), H17 VREFB6N1 (io), H20 DIFFIO_R19p (io), H21 DIFFIO_R19n (io), H22 DIFFIO_R22n (io), J15 VREFB6N2 (io), J16 DIFFIO_R6p (io), J19 DIFFIO_R23p (io), J20 DIFFIO_R23n (io), J21 DIFFIO_R22p (io), J22 DIFFIO_R21n (io), K13 DIFFIO_R4p (io), K14 DIFFIO_R4n (io), K17 DIFFIO_R6n (io), K19 DIFFIO_R20p (io), K20 DIFFIO_R20n (io), K22 DIFFIO_R21p (io), L19 DIFFIO_R25p (io), L20 DIFFIO_R25n (io), L21 DIFFCLK_3p (io), L22 DIFFCLK_3n (io)
part F pins: A9 DIFFCLK_5n (io), A10 DIFFIO_T21n (io), A11 DIFFIO_T22n (io), A12 DIFFIO_T22p (io), A13 DIFFIO_T30n (io), A14 DIFFIO_T30p (io), A15 DIFFIO_T32n (io), A16 DIFFIO_T34n (io), A17 DIFFIO_T34p (io), A18 DIFFIO_T37n (io), A19 DIFFIO_T37p (io), B9 DIFFCLK_5p (io), B10 DIFFIO_T21p (io), B12 DIFFIO_T28n (io), B13 DIFFIO_T28p (io), B15 DIFFIO_T32p (io), B16 DIFFIO_T35n (io), B18 VREFB7N0 (io), C10 DIFFIO_T24n (io), C11 DIFFIO_T24p (io), C12 DIFFIO_T29n (io), C13 DIFFIO_T29p (io), C14 DIFFIO_T31n (io), C15 DIFFIO_T33n (io), C16 DIFFIO_T35p (io), C17 PLL4_CLKOUTn (io), C18 PLL4_CLKOUTp (io), D13 VREFB7N1 (io), D14 DIFFIO_T31p (io), D15 DIFFIO_T33p (io), D16 VREFB7N0 (io), D17 DIFFIO_T36n (io), E17 DIFFIO_T36p (io), F12 VREFB7N2 (io), F16 RUP4 (io), F17 RDN4 (io), G12 DIFFIO_T20n (io), G14 DIFFIO_T27n (io), G15 DIFFIO_T27p (io), H12 DIFFIO_T20p (io), H13 DIFFIO_T23n (io), H14 DIFFIO_T26n (io), J12 DIFFIO_T25n (io), J13 DIFFIO_T23p (io), J14 DIFFIO_T26p (io), K12 DIFFIO_T25p (io)
part G pins: A1 DIFFIO_T13n (io), A2 DIFFIO_T16n (io), A3 DIFFIO_T16p (io), A4 DIFFIO_T17n (io), A5 DIFFIO_T17p (io), A6 DIFFIO_T18n (io), A7 DIFFIO_T18p (io), A8 DIFFIO_T19n (io), B1 DIFFIO_T13p (io), B3 DIFFIO_T15n (io), B4 DIFFIO_T15p (io), B6 DIFFIO_T14n (io), B7 DIFFIO_T19p (io), C1 DIFFIO_T11n (io), C2 DIFFIO_T11p (io), C3 DIFFIO_T9n (io), C4 DIFFIO_T9p (io), C5 DIFFIO_T7n (io), C6 DIFFIO_T14p (io), C7 DIFFIO_T10n (io), C8 DIFFIO_T12n (io), C9 DIFFIO_T5n (io), D4 DIFFIO_T7p (io), D5 DIFFIO_T6n (io), D6 DIFFIO_T4n (io), D7 DIFFIO_T10p (io), D8 DIFFIO_T12p (io), D9 DIFFIO_T5p (io), D10 VREFB8N2 (io), D11 VREFB8N1 (io), D12 VREFB8N0 (io), E5 DIFFIO_T6p (io), E6 DIFFIO_T4p (io), E8 DIFFIO_T8n (io), F6 DIFFIO_T2n (io), F8 DIFFIO_T8p (io), G6 DIFFIO_T2p (io), G7 DIFFIO_T3n (io), G8 DIFFIO_T1n (io), G10 PLL2_CLKOUTn (io), G11 CLKUSR (io), H7 DIFFIO_T3p (io), H8 DIFFIO_T1p (io), H9 PLL2_CLKOUTp (io), J10 DIFFCLK_4n,REFCLK3n (io), K10 DIFFCLK_4p,REFCLK3p (io)
part H pins: D1 DATA1, ASDO (io), D2 nCE (io), D3 DCLK (io), E3 TDO (io), E4 TCK (io), F5 TDI (io), G5 TMS (io), H4 nCONFIG (io), J4 NCSO (io), K4 DATA0 (io)
part I pins: AA1 GND, AA2 GND, AA5 GND, AA8 GND, AA11 GND, AA14 GND, AA17 GND, AB2 GND, B2 GND, B5 GND, B8 GND, B11 GND, B14 GND, B17 GND, C21 GND, D18 GND, E1 GND, E2 GND, E7 GND, E19 GND, F3 GND, F9 GND, F11 GND, F13 GND, F15 GND, F21 GND, G1 GND, G2 GND, H5 GND, H11 GND, H18 GND, J1 GND, J2 GND, J6 GND, J8 GND, K5 GND, K7 GND, K9 GND, K11 GND, K15 GND, K21 GND, L1 GND, L2 GND, L6 GND, L8 GND, L10 GND, L12 GND, L18 GND, M3 GND, M5 GND, M9 GND, N1 GND, N2 GND, N4 GND, N6 GND, N10 GND, P9 GND, P11 GND, P16 GND, P18 GND, P21 GND, R1 GND, R2 GND, R6 GND, R12 GND, T4 GND, U1 GND, U2 GND, U3 GND, U10 GND, U17 GND, U21 GND, V5 GND, V8 GND, V11 GND, V14 GND, V19 GND, W1 GND, W2 GND, Y21 GND
part J pins: AA3 NC (io), AB1 RREF0 (io), E9 VCCIO8 (io), E10 VCCIO8 (io), E11 VCCIO8 (io), E12 VCCIO8 (io), E13 VCCIO7 (io), E14 VCCIO7 (io), E15 VCCIO7 (io), E16 VCCIO7 (io), E18 VCCD_PLL (io), F4 VCCA (io), F7 VCCINT (io), F10 VCCIO8 (io), F14 VCCIO7 (io), F19 VCCA (io), G3 VCCD_PLL (io), G4 VCCIO9 (io), G9 VCCINT (io), G13 VCCINT (io), H3 VCCH_GXB (io), H6 VCCINT (io), H10 VCC_CLKIN8A (io), H19 VCCIO6 (io), J3 VCCA_GXB (io), J5 VCCINT (io), J7 VCCINT (io), J9 VCCINT (io), J11 VCCINT (io), J17 VCCINT (io), J18 VCCIO6 (io), K3 VCCL_GXB (io), K6 VCCINT (io), K8 VCCINT (io), K16 VCCINT (io), K18 VCCIO6 (io), L3 VCCL_GXB (io), L4 VCCA (io), L5 VCCINT (io), L7 VCCINT (io), L9 VCCINT (io), L11 VCCINT (io), L17 VCCINT (io), M4 VCCD_PLL (io), M6 VCCINT (io), M10 VCCINT (io), M12 VCCINT (io), N3 VCCL_GXB (io), N5 VCCINT (io), N9 VCCINT (io), N12 VCC_CLKIN3A (io), N16 VCCINT (io), N18 VCCIO5 (io), P3 VCCH_GXB (io), P6 VCCINT (io), P7 VCC_CLKIN3B (io), P8 VCCINT (io), P12 VCCINT (io), P17 VCCINT (io), P19 VCCIO5 (io), R3 VCCA_GXB (io), R4 VCCD_PLL (io), R7 VCCINT (io), R18 VCCIO5 (io), T3 VCCL_GXB (io), T5 VCCA (io), T10 VCCINT (io), T12 VCCINT (io), U4 VCCD_PLL (io), U8 VCCIO3 (io), U9 VCCIO3 (io), U11 VCCIO3 (io), U13 VCCIO4 (io), U16 VCCINT (io), U19 VCCA (io), V3 VCCL_GXB (io), V4 VCCA (io), V10 VCCIO3 (io), V12 VCCIO3 (io), V15 VCCIO4 (io), V16 VCCIO4 (io), V17 VCCIO4 (io), V18 VCCD_PLL (io), W3 VCCA_GXB (io), Y3 NC (io)
part A text: BANK 4
part B text: BANK 3; BANKS 3A, 3B
part D text: BANK 5
part E text: BANK 6
part F text: BANK 7
part G text: BANK 8
part H text: BANK 9
part I text: BANK GND

## FDMC8878
designator VT?
Drain to Source Voltage (Vdss): 30V; Vgs(th) (Max) @ Id: 3V @ 250µA; Input Capacitance (Ciss) @ Vds: 1230pF @ 15V; Power - Max: 2.1W; Gate Charge (Qg) @ Vgs: 26nC @ 10V; Current - Continuous Drain (Id) @ 25°C: 9.6A (Ta), 16.5A (Tc); Rds On (Max) @ Id, Vgs: 14 mOhm @ 9.6A, 10V; Supplier 1: Digi-Key; Category: Discrete Semiconductor Products; Manufacturer Part Number: FDMC8878; Mounting Type: Surface Mount; Supplier Device Package: 8-Power33 (3x3); Package / Case: 8-PowerVDFN; Supplier Part Number 1: FDMC8878CT-ND
footprint FDMC8878 (SON, 8-Leads, Body 3,30x3,30mm, Pitch 0,65mm, Thermal Pad 1,20x0,75mm, IPC Medium Density)
pins: 1 S, 2 S, 3 S, 4 G, 5 D, 6 D, 7 D, 8 D

## FDS8880
designator IC?
Manufacturer: Fairchild Semiconductor; Input Capacitance (Ciss) @ Vds: 1235pF @ 15V; Power - Max: 2.5W; FET Feature: Standard; Drain to Source Voltage (Vdss): 30V; Rds On (Max) @ Id, Vgs: 10 mOhm @ 11.6A, 10V; Vgs(th) (Max) @ Id: 2.5V @ 250µA; Gate Charge (Qg) @ Vgs: 30nC @ 10V; Current - Continuous Drain (Id) @ 25°C: 11.6A (Ta); FET Type: MOSFET N-Channel, Metal Oxide; Supplier 1: Digi-Key; Package / Case: 8-SOIC (0.154", 3.90mm Width); Supplier Device Package: 8-SOIC N; Mounting Type: Surface Mount; Manufacturer Part Number 1: FDS8880; RoHS: RoHS Compliant; Packaging: Digi-Reel®; Category: Discrete Semiconductor Products; Supplier Part Number 1: FDS8880DKR-ND
footprint SO-8_N (SOIC, 8-Leads, Body 4.9x3.9mm, Pitch 1.27mm, IPC Medium Density)
pins: 1 S, 2 S, 3 S, 4 G, 5 D, 6 D, 7 D, 8 D

## Ferrite
designator FR?
footprint RES0402 (Chip Resistor, Body 1.0x0.5mm, EIA 0402, IPC Medium Density)
pins: 1, 2

## Fiducial
designator F?  (value not drawn)
footprint Fiducial
pins: 1

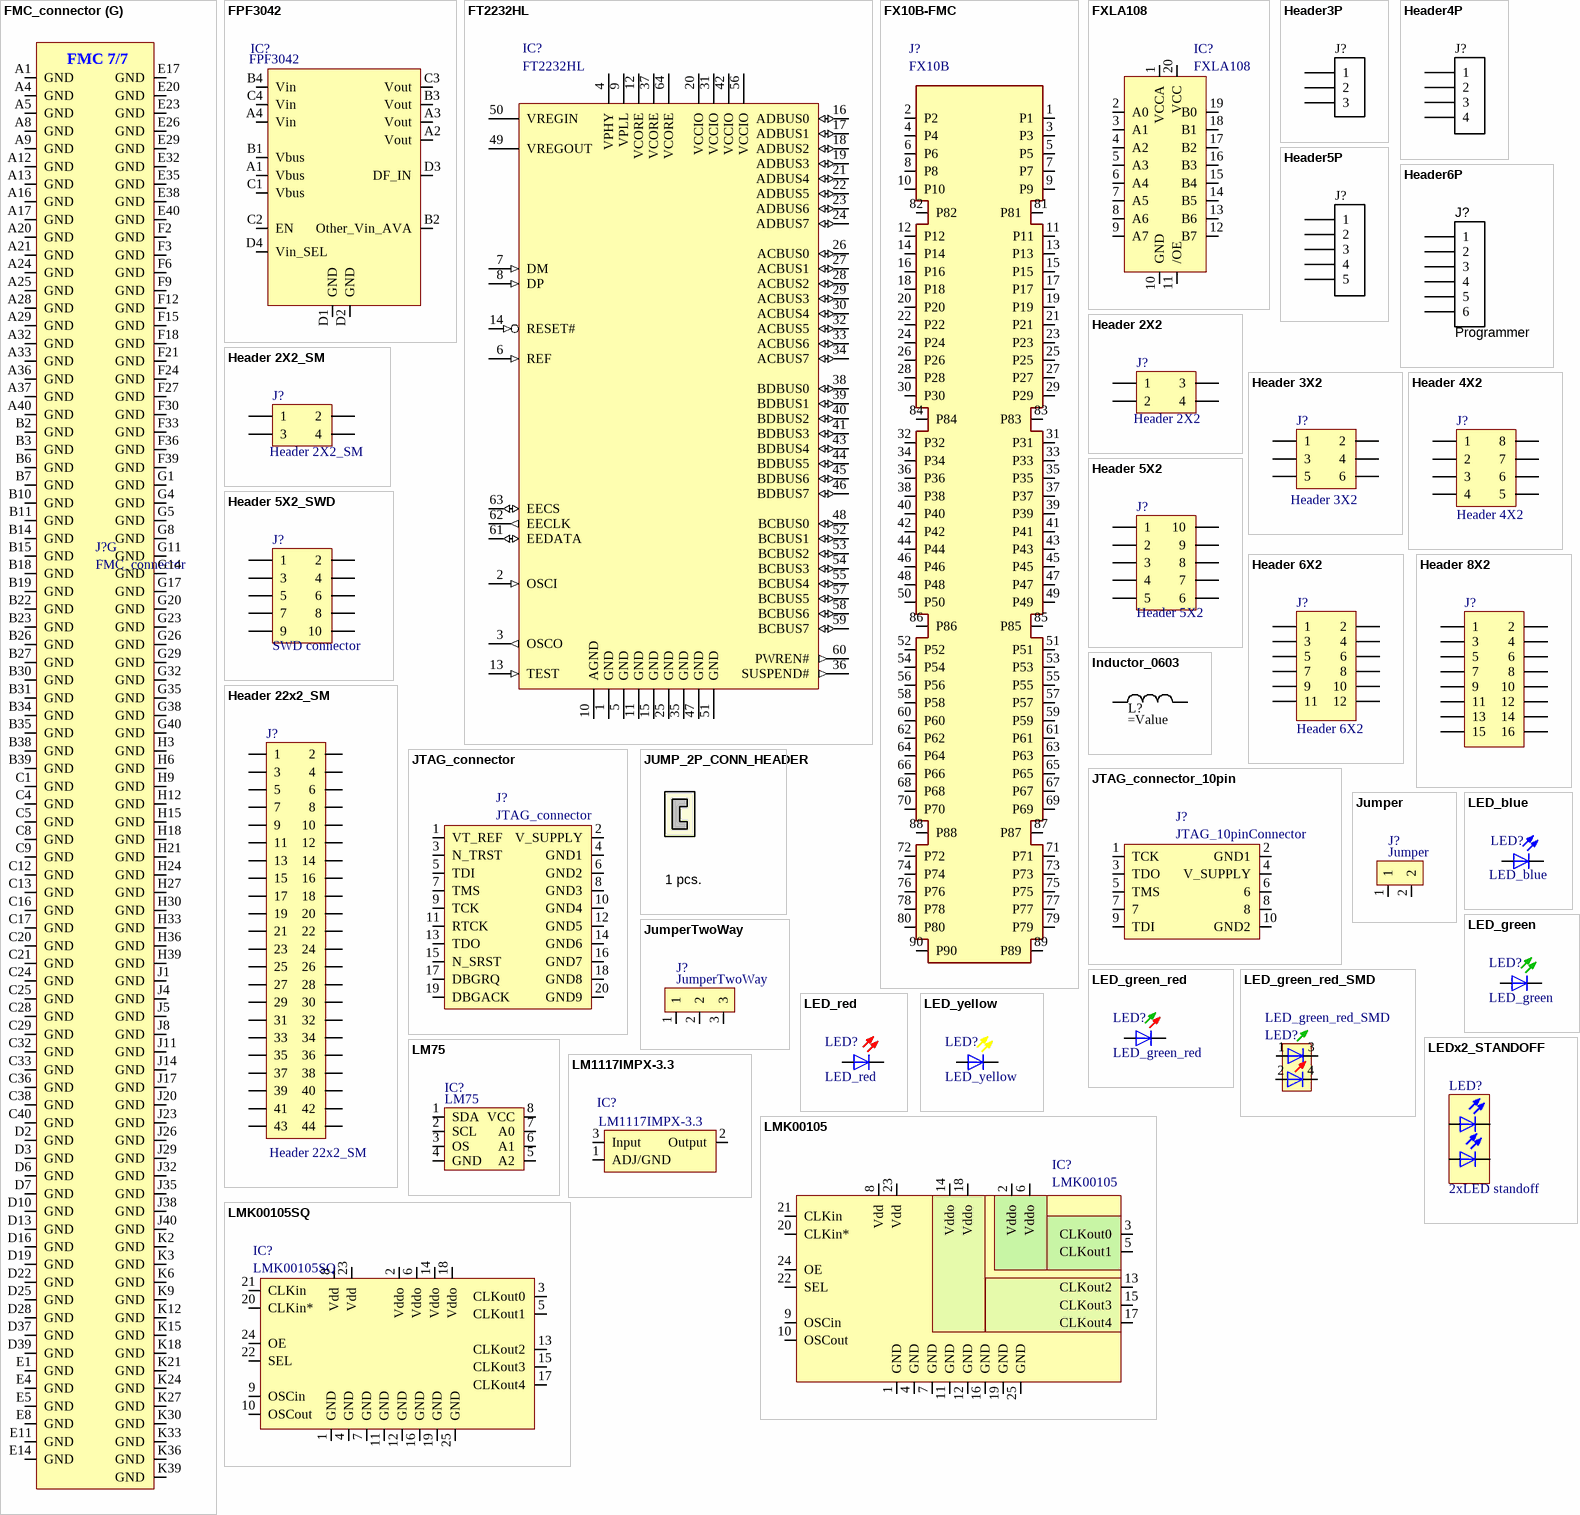
[diagram p29: symbols FMC_connector to LMK00105SQ]

## FMC_connector
designator J?
Manufacturer Part Number: ASP-134603-01; Supplier 1: Digi-Key; Category: Connectors, Interconnects; Supplier Part Number: SAM8729-ND
footprint FMC_full_conn
part A pins: C10 LA06_P, C11 LA06_N, C14 LA10_P, C15 LA10_N, C18 LA14_P, C19 LA14_N, C22 LA18_CC_P, C23 LA18_CC_N, C26 LA27_P, C27 LA27_N, D8 LA01_CC_P, D9 LA01_CC_N, D11 LA05_P, D12 LA05_N, D14 LA09_P, D15 LA09_N, D17 LA13_P, D18 LA13_N, D20 LA17_CC_P, D21 LA17_CC_N, D23 LA23_P, D24 LA23_N, D26 LA26_P, D27 LA26_N, G6 LA00_CC_P, G7 LA00_CC_N, G9 LA03_P, G10 LA03_N, G12 LA08_P, G13 LA08_N, G15 LA12_P, G16 LA12_N, G18 LA16_P, G19 LA16_N, G21 LA20_P, G22 LA20_N, G24 LA22_P, G25 LA22_N, G27 LA25_P, G28 LA25_N, G30 LA29_P, G31 LA29_N, G33 LA31_P, G34 LA31_N, G36 LA33_P, G37 LA33_N, H7 LA02_P, H8 LA02_N, H10 LA04_P, H11 LA04_N, H13 LA07_P, H14 LA07_N, H16 LA11_P, H17 LA11_N, H19 LA15_P, H20 LA15_N, H22 LA19_P, H23 LA19_N, H25 LA21_P, H26 LA21_N, H28 LA24_P, H29 LA24_N, H31 LA28_P, H32 LA28_N, H34 LA30_P, H35 LA30_N, H37 LA32_P, H38 LA32_N
part B pins: E2 HA01_CC_P, E3 HA01_CC_N, E6 HA05_P, E7 HA05_N, E9 HA09_P, E10 HA09_N, E12 HA13_P, E13 HA13_N, E15 HA16_P, E16 HA16_N, E18 HA20_P, E19 HA20_N, F4 HA00_CC_P, F5 HA00_CC_N, F7 HA04_P, F8 HA04_N, F10 HA08_P, F11 HA08_N, F13 HA12_P, F14 HA12_N, F16 HA15_P, F17 HA15_N, F19 HA19_P, F20 HA19_N, J6 HA03_P, J7 HA03_N, J9 HA07_P, J10 HA07_N, J12 HA11_P, J13 HA11_N, J15 HA14_P, J16 HA14_N, J18 HA18_P, J19 HA18_N, J21 HA22_P, J22 HA22_N, K7 HA02_P, K8 HA02_N, K10 HA06_P, K11 HA06_N, K13 HA10_P, K14 HA10_N, K16 HA17_CC_P, K17 HA17_CC_N, K19 HA21_P, K20 HA21_N, K22 HA23_P, K23 HA23_N
part C pins: E21 HB03_P, E22 HB03_N, E24 HB05_P, E25 HB05_N, E27 HB09_P, E28 HB09_N, E30 HB13_P, E31 HB13_N, E33 HB19_P, E34 HB19_N, E36 HB21_P, E37 HB21_N, F22 HB02_P, F23 HB02_N, F25 HB04_P, F26 HB04_N, F28 HB08_P, F29 HB08_N, F31 HB12_P, F32 HB12_N, F34 HB16_P, F35 HB16_N, F37 HB20_P, F38 HB20_N, J24 HB01_P, J25 HB01_N, J27 HB07_P, J28 HB07_N, J30 HB11_P, J31 HB11_N, J33 HB15_P, J34 HB15_N, J36 HB18_P, J37 HB18_N, K25 HB00_CC_P, K26 HB00_CC_N, K28 HB06_CC_P, K29 HB06_CC_N, K31 HB10_P, K32 HB10_N, K34 HB14_P, K35 HB14_N, K37 HB17_CC_P, K38 HB17_CC_N
part D pins: A2 DP1_M2C_P, A3 DP1_M2C_N, A6 DP2_M2C_P, A7 DP2_M2C_N, A10 DP3_M2C_P, A11 DP3_M2C_N, A14 DP4_M2C_P, A15 DP4_M2C_N, A18 DP5_M2C_P, A19 DP5_M2C_N, A22 DP1_C2M_P, A23 DP1_C2M_N, A26 DP2_C2M_P, A27 DP2_C2M_N, A30 DP3_C2M_P, A31 DP3_C2M_N, A34 DP4_C2M_P, A35 DP4_C2M_N, A38 DP5_C2M_P, A39 DP5_C2M_N, B4 DP9_M2C_P, B5 DP9_M2C_N, B8 DP8_M2C_P, B9 DP8_M2C_N, B12 DP7_M2C_P, B13 DP7_M2C_N, B16 DP6_M2C_P, B17 DP6_M2C_N, B24 DP9_C2M_P, B25 DP9_C2M_N, B28 DP8_C2M_P, B29 DP8_C2M_N, B32 DP7_C2M_P, B33 DP7_C2M_N, B36 DP6_C2M_P, B37 DP6_C2M_N, C2 DP0_C2M_P, C3 DP0_C2M_N, C6 DP0_M2C_P, C7 DP0_M2C_N
part E pins: B1 RES1, B20 GBTCLK1_M2C_P, B21 GBTCLK1_M2C_N, B40 RES0, C30 SCL, C31 SDA, C34 GA0, D1 PG_C2M, D4 GBTCLK0_M2C_P, D5 GBTCLK0_M2C_N, D29 TCK, D30 TDI, D31 TDO, D33 TMS, D34 TRST_L, D35 GA1, F1 PG_M2C, G2 CLK0_C2M_P, G3 CLK0_C2M_N, H2 PRSNT_M2C_L, H4 CLK0_M2C_P, H5 CLK0_M2C_N, J2 CLK1_C2M_P, J3 CLK1_C2M_N, K4 CLK1_M2C_P, K5 CLK1_M2C_N
part F pins: C35 12P0V, C37 12P0V, C39 3P3V, D32 3P3VAUX, D36 3P3V, D38 3P3V, D40 3P3V, E39 VADJ, F40 VADJ, G39 VADJ, H1 VREF_A_M2C, H40 VADJ, J39 VIO_B_M2C, K1 VREF_B_M2C, K40 VIO_B_M2C
part G pins: A1 GND, A4 GND, A5 GND, A8 GND, A9 GND, A12 GND, A13 GND, A16 GND, A17 GND, A20 GND, A21 GND, A24 GND, A25 GND, A28 GND, A29 GND, A32 GND, A33 GND, A36 GND, A37 GND, A40 GND, B2 GND, B3 GND, B6 GND, B7 GND, B10 GND, B11 GND, B14 GND, B15 GND, B18 GND, B19 GND, B22 GND, B23 GND, B26 GND, B27 GND, B30 GND, B31 GND, B34 GND, B35 GND, B38 GND, B39 GND, C1 GND, C4 GND, C5 GND, C8 GND, C9 GND, C12 GND, C13 GND, C16 GND, C17 GND, C20 GND, C21 GND, C24 GND, C25 GND, C28 GND, C29 GND, C32 GND, C33 GND, C36 GND, C38 GND, C40 GND, D2 GND, D3 GND, D6 GND, D7 GND, D10 GND, D13 GND, D16 GND, D19 GND, D22 GND, D25 GND, D28 GND, D37 GND, D39 GND, E1 GND, E4 GND, E5 GND, E8 GND, E11 GND, E14 GND, E17 GND, E20 GND, E23 GND, E26 GND, E29 GND, E32 GND, E35 GND, E38 GND, E40 GND, F2 GND, F3 GND, F6 GND, F9 GND, F12 GND, F15 GND, F18 GND, F21 GND, F24 GND, F27 GND, F30 GND, F33 GND, F36 GND, F39 GND, G1 GND, G4 GND, G5 GND, G8 GND, G11 GND, G14 GND, G17 GND, G20 GND, G23 GND, G26 GND, G29 GND, G32 GND, G35 GND, G38 GND, G40 GND, H3 GND, H6 GND, H9 GND, H12 GND, H15 GND, H18 GND, H21 GND, H24 GND, H27 GND, H30 GND, H33 GND, H36 GND, H39 GND, J1 GND, J4 GND, J5 GND, J8 GND, J11 GND, J14 GND, J17 GND, J20 GND, J23 GND, J26 GND, J29 GND, J32 GND, J35 GND, J38 GND, J40 GND, K2 GND, K3 GND, K6 GND, K9 GND, K12 GND, K15 GND, K18 GND, K21 GND, K24 GND, K27 GND, K30 GND, K33 GND, K36 GND, K39 GND
part A text: FMC 1/7
part B text: FMC 2/7
part C text: FMC 3/7
part D text: FMC 4/7
part E text: FMC 5/7; clocks /; JTAG /; misc /; I2C /
part F text: FMC 6/7; power /; VREF /
part G text: FMC 7/7

## FPF3042
designator IC?
Manufacturer: Fairchild Semiconductor; Manufacturer Part Number 1: FPF3042UCX; Current - Output (Max): 2.7A; Voltage - Supply: 4 V ~ 12.4 V; FET Type: N-Channel; Internal Switch(s): Yes; Current - Supply: 55µA; Ratio - Input:Output: 2:1; Supplier 1: Digi-Key; Operating Temperature: -40°C ~ 85°C; Type: Source Selector Switch; Delay Time - OFF: -; Package / Case: 16-UFBGA, WLCSP; Delay Time - ON: -; Mounting Type: Surface Mount; Applications: Handheld/Mobile Devices; Supplier Device Package: 16-WLCSP; Packaging: Cut Tape (CT); Category: Integrated Circuits (ICs); RoHS: RoHS Compliant; Supplier Part Number 1: FPF3042UCXCT-ND
footprint FPF3042
pins: A1 Vbus, A2 Vout, A3 Vout, A4 Vin, B1 Vbus, B2 Other_Vin_AVA, B3 Vout, B4 Vin, C1 Vbus, C2 EN, C3 Vout, C4 Vin, D1 GND, D2 GND, D3 DF_IN, D4 Vin_SEL

## FT2232HL
designator IC?
Manufacturer: FTDI, Future Technology Devices International Ltd; Voltage - Supply: 3 V ~ 3.6 V; Current - Supply: 70mA; Standards: USB 2.0; Interface: UART; Function: Bridge, USB to UART; Supplier 1: Digi-Key; Category: Integrated Circuits (ICs); Package / Case: 64-LQFP; Supplier Part Number 1: 768-1024-2-ND
footprint FT2232HL_LQFP-64_M (Thin QFP, 64-Leads, Body 10x10mm, Pitch 0.5mm, IPC Low Density)
pins: 1 GND (power), 2 OSCI (in), 3 OSCO (out), 4 VPHY (power), 5 GND (power), 6 REF (in), 7 DM (in), 8 DP (in), 9 VPLL (power), 10 AGND (power), 11 GND (power), 12 VCORE (power), 13 TEST (in), 14 RESET# (in), 15 GND (power), 16 ADBUS0 (io), 17 ADBUS1 (io), 18 ADBUS2 (io), 19 ADBUS3 (io), 20 VCCIO (power), 21 ADBUS4 (io), 22 ADBUS5 (io), 23 ADBUS6 (io), 24 ADBUS7 (io), 25 GND (power), 26 ACBUS0 (io), 27 ACBUS1 (io), 28 ACBUS2 (io), 29 ACBUS3 (io), 30 ACBUS4 (io), 31 VCCIO (power), 32 ACBUS5 (io), 33 ACBUS6 (io), 34 ACBUS7 (io), 35 GND (power), 36 SUSPEND# (out), 37 VCORE (power), 38 BDBUS0 (io), 39 BDBUS1 (io), 40 BDBUS2 (io), 41 BDBUS3 (io), 42 VCCIO (power), 43 BDBUS4 (io), 44 BDBUS5 (io), 45 BDBUS6 (io), 46 BDBUS7 (io), 47 GND (power), 48 BCBUS0 (io), 49 VREGOUT (power), 50 VREGIN (power), 51 GND (power), 52 BCBUS1 (io), 53 BCBUS2 (io), 54 BCBUS3 (io), 55 BCBUS4 (io), 56 VCCIO (power), 57 BCBUS5 (io), 58 BCBUS6 (io), 59 BCBUS7 (io), 60 PWREN# (out), 61 EEDATA (io), 62 EECLK (out), 63 EECS (io), 64 VCORE (power)

## FX10B-FMC
designator J?, comment FX10B
Manufacturer Part Number 1: FX10B-80S/8-SV(71); Current Rating: 300 mA; Voltage Rating: 50 V; Brand: Hirose Connector; Pitch: 0.5 mm; Number of Positions: 80; Supplier 1: Mouser; Category: Board to Board & Mezzanine Connectors; Contact Plating: Gold; Series: FX10; Termination Style: SMD; Manufacturer: Hirose Connector; Supplier: Mouser; Supplier Part Number 1: 798-FX10B80S8SV71
footprint FX10B-80S/8-SV
pins: 1 P1, 2 P2, 3 P3, 4 P4, 5 P5, 6 P6, 7 P7, 8 P8, 9 P9, 10 P10, 11 P11, 12 P12, 13 P13, 14 P14, 15 P15, 16 P16, 17 P17, 18 P18, 19 P19, 20 P20, 21 P21, 22 P22, 23 P23, 24 P24, 25 P25, 26 P26, 27 P27, 28 P28, 29 P29, 30 P30, 31 P31, 32 P32, 33 P33, 34 P34, 35 P35, 36 P36, 37 P37, 38 P38, 39 P39, 40 P40, 41 P41, 42 P42, 43 P43, 44 P44, 45 P45, 46 P46, 47 P47, 48 P48, 49 P49, 50 P50, 51 P51, 52 P52, 53 P53, 54 P54, 55 P55, 56 P56, 57 P57, 58 P58, 59 P59, 60 P60, 61 P61, 62 P62, 63 P63, 64 P64, 65 P65, 66 P66, 67 P67, 68 P68, 69 P69, 70 P70, 71 P71, 72 P72, 73 P73, 74 P74, 75 P75, 76 P76, 77 P77, 78 P78, 79 P79, 80 P80, 81 P81, 82 P82, 83 P83, 84 P84, 85 P85, 86 P86, 87 P87, 88 P88, 89 P89, 90 P90

## FXLA108
designator IC?
Manufacturer: Fairchild Semiconductor; Logic Function: Translator, Bidirectional, Unidirectional, 3-State; Data Rate: 140Mbps; Voltage - Supply: 1.1 V ~ 3.6 V; Propagation Delay (Max): 4ns; Supplier 1: Digi-Key; Supplier Device Package: 20-DQFN; Category: Integrated Circuits (ICs); Supplier Part Number 1: FXLA108BQXCT-ND
footprint FXLA108 (PQFN, 20-Leads, Body 2,50x4,50mm, Pitch 0,50mm, Thermal Pad 1,00x2,55mm, IPC Medium Density)
pins: 1 VCCA, 2 A0, 3 A1, 4 A2, 5 A3, 6 A4, 7 A5, 8 A6, 9 A7, 10 GND, 11 /OE, 12 B7, 13 B6, 14 B5, 15 B4, 16 B3, 17 B2, 18 B1, 19 B0, 20 VCC

## Header3P
designator J?, comment Header 3x1 pin  (value not drawn)  (no BOM)
Header, 3-pin
footprint hdr1x3 (Connector; Header; 3 Position)
pins: 1, 2, 3

## Header4P
designator J?, comment Programmer  (value not drawn)  (no BOM)
Header, 4-pin
footprint HEADER4X1_TH
pins: 1, 2, 3, 4

## Header5P
designator J?, comment Programmer  (value not drawn)  (no BOM)
Header, 5-pin
footprint Header5x1_TH
pins: 1, 2, 3, 4, 5

## Header6P
designator J?, comment Programmer  (no BOM)
Header, 6-pin
footprint HDR1X6 (Connector; Header; 6 Position)
pins: 1, 2, 3, 4, 5, 6

## Header 2X2
designator J?
Header, 2-Pin, Dual row
footprint Header2x2_TH
pins: 1, 2, 3, 4

## Header 2X2_SM
designator J?
Header, 2-Pin, Dual row
footprint Header2x2_SM
pins: 1, 2, 3, 4

## Header 3X2
designator J?
Header, 2-Pin, Dual row
footprint Header3x2
pins: 1, 2, 3, 4, 5, 6

## Header 4X2
designator J?
Header, 4-Pin, Dual row
footprint Header4x2_SM
pins: 1, 2, 3, 4, 5, 6, 7, 8

## Header 5X2
designator J?
Header, 5-Pin, Dual row
footprint Header5x2_SM
pins: 1, 2, 3, 4, 5, 6, 7, 8, 9, 10

## Header 5X2_SWD
designator J?, comment SWD connector
Header, 5-Pin, Dual row; Manufacturer Part Number 1: M50-3600542; Manufacturer: Harwin Inc; Number of Positions: 10; Molding Height Above Board: 0.039" (1.00mm); Row Spacing: 0.050" (1.27mm); Number of Positions Loaded: All; Connector Type: Unshrouded; Supplier 1: Digi-Key; Contact Mating Length: 0.118" (3.00mm); Category: Connectors, Interconnects; Color: Black; RoHS: RoHS Compliant; Number of Rows: 2; Contact Finish Thickness: 3µin (0.08µm); Height Stacking (Mating): -; Contact Finish: Gold; Termination: Solder; Mounting Type: Surface Mount; Pitch: 0.050" (1.27mm); Features: -; Packaging: Bulk; Supplier Part Number 1: 952-1389-ND
footprint SWD_10_pin
pins: 1, 2, 3, 4, 5, 6, 7, 8, 9, 10

## Header 6X2
designator J?
Header, 8-Pin, Dual row
footprint Header6x2_SM
pins: 1, 2, 3, 4, 5, 6, 7, 8, 9, 10, 11, 12

## Header 8X2
designator J?
Header, 8-Pin, Dual row; LatestRevisionDate: 17-Jul-2002; LatestRevisionNote: Re-released for DXP Platform.; Publisher: Altium Limited
pins: 1, 2, 3, 4, 5, 6, 7, 8, 9, 10, 11, 12, 13, 14, 15, 16

## Header 22x2_SM
designator J?
footprint Header22x2_SM
pins: 1, 2, 3, 4, 5, 6, 7, 8, 9, 10, 11, 12, 13, 14, 15, 16, 17, 18, 19, 20, 21, 22, 23, 24, 25, 26, 27, 28, 29, 30, 31, 32, 33, 34, 35, 36, 37, 38, 39, 40, 41, 42, 43, 44

## Inductor_0603
designator L?
pins: 1, 2

## JTAG_connector
designator J?
pins: 1 VT_REF, 2 V_SUPPLY, 3 N_TRST, 4 GND1 (power), 5 TDI, 6 GND2 (power), 7 TMS, 8 GND3 (power), 9 TCK, 10 GND4 (power), 11 RTCK, 12 GND5 (power), 13 TDO, 14 GND6 (power), 15 N_SRST, 16 GND7 (power), 17 DBGRQ, 18 GND8 (power), 19 DBGACK, 20 GND9 (power)

## JTAG_connector_10pin
designator J?, comment JTAG_10pinConnector
footprint HEADER5x2_SM
pins: 1 TCK, 2 GND1 (power), 3 TDO, 4 V_SUPPLY (power), 5 TMS, 6, 7, 8, 9 TDI, 10 GND2 (power)

## JUMP_2P_CONN_HEADER
designator JMP?, comment 1 pcs.  (mechanical)
Shorting Jumper, 2-position, 2.54mm pitch; Manufacturer: Sullins Connector Solutions; Manufacturer Part Number 1: SPC02SYAN; Pitch: 0.100" (2.54mm); Gender: Female Sockets; Number of Positions or Pins (Grid): 2 (1 x 2); Supplier 1: Digi-Key; Type: Closed Top; Packaging: Bulk; Contact Finish: Gold; Color: Black; Height: 0.256" (6.50mm); RoHS: RoHS Compliant; Category: Connectors, Interconnects; Contact Finish Thickness: Flash; Supplier Part Number 1: S9001-ND
pins: 1 hidden, 2 hidden

## Jumper
designator J?
pins: 1, 2

## JumperTwoWay
designator J?
footprint HDR_1x3
pins: 1, 2, 3

## LED_blue
designator LED?
footprint LED-0603-BLUE
pins: A (power), K C (power)

## LED_green
designator LED?
footprint LED-0603-GREEN
pins: A (power), K C (power)

## LED_green_red
designator LED?
footprint LED-0603-GREEN
pins: A (power), K C (power)

## LED_green_red_SMD
designator LED?
Manufacturer Part Number 1: HSMF-C165; Manufacturer: Avago Technologies US Inc.; Millicandela Rating: 15mcd Green, 10mcd Red; Lens Transparency: Diffused; Lens Color: White; Lens Style/Size: Rectangle with Flat Top, 1.60mm x 0.80mm; Wavelength - Peak: 570nm Green, 636nm Red; Wavelength - Dominant: 572nm Green, 621nm Red; Viewing Angle: 120°; Voltage - Forward (Vf) (Typ): 2.2V Green, 1.95V Red; Current - Test: 20mA; Color: Green, Red; Supplier 1: Digi-Key; Height (Max): 0.50mm; Packaging: Cut Tape (CT); Category: Optoelectronics; Mounting Type: Surface Mount; Package / Case: 0603 (1608 Metric); Size / Dimension: 1.60mm L x 0.80mm W; Supplier Device Package: *; RoHS: RoHS Compliant; Supplier Part Number 1: 516-1419-1-ND
footprint LED-2x0603
pins: 1 (power), 2 (power), 3 (power), 4 (power)

## LED_red
designator LED?
footprint LED-0603-RED
pins: A (power), K C (power)

## LED_yellow
designator LED?
footprint LED-0603-YELLOW
pins: A (power), K C (power)

## LEDx2_STANDOFF
designator LED?, comment 2xLED standoff
footprint LED_STANDOFF_H-201C (Bivar Inc. H-201C)
pins: A1 A (power), A2 A (power), K1 C (power), K2 C (power)

## LM75
designator IC?
Manufacturer: NXP Semiconductors; Manufacturer Part Number: LM75BTP,147; Sensing Temperature - Local: -55°C ~ 125°C; Output Type: I²C; Accuracy - Highest (Lowest): ±2°C (±3°C); Voltage - Supply: 2.8 V ~ 5.5 V; Test Condition: -25°C ~ 100°C (-55°C ~ 125°C); Sensor Type: Digital, Local; Resolution: 10 b; Supplier 1: Digi-Key; Operating Temperature: -55°C ~ 125°C; Features: Output Switch, Programmable Limit, Shutdown Mode; Supplier Device Package: 8-HWSON (2x3); Sensing Temperature - Remote: -; Category: Sensors, Transducers; Packaging: Tape & Reel (TR); RoHS: RoHS Compliant; Package / Case: 8-WFDFN Exposed Pad; Supplier Part Number 1: 568-9815-2-ND
footprint HWSON8_LM75
pins: 1 SDA, 2 SCL, 3 OS, 4 GND, 5 A2, 6 A1, 7 A0, 8 VCC

## LM1117IMPX-3.3
designator IC?
Manufacturer Part Number 1: LM1117IMP-3.3/NOPB; Manufacturer: Texas Instruments; Regulator Topology: Positive Fixed; Voltage - Input: Up to 15V; Current - Limit (Min): 800mA; Number of Regulators: 1; Voltage - Output: 3.3V; Voltage - Dropout (Typical): 1.2V @ 800mA; Supplier 1: Digi-Key; RoHS: RoHS Compliant; Mounting Type: Surface Mount; Operating Temperature: -40°C ~ 125°C; Supplier Device Package: SOT-223; Packaging: Cut Tape (CT); Package / Case: TO-261-4, TO-261AA; Current - Output: 800mA; Category: Integrated Circuits (ICs); Supplier Part Number 1: LM1117IMP-3.3/NOPBCT-ND
footprint sot-223 (Footprint not found)
pins: 1 ADJ/GND, 2 Output, 3 Input

## LMK00105
designator IC?
Manufacturer: Texas Instruments; Manufacturer Part Number 1: LMK00105SQ/NOPB; Frequency - Max: 200MHz; Voltage - Supply: 2.375 V ~ 3.45 V; Input: HCSL, LVCMOS, LVDS, LVPECL, LVTTL, SSTL, Crystal; Differential - Input:Output: Yes/No; Supplier 1: Digi-Key; Type: Fanout Buffer (Distribution), Multiplexer, Translator; Category: Integrated Circuits (ICs); Operating Temperature: -40°C ~ 85°C; Package / Case: 24-WFQFN Exposed Pad; Supplier Device Package: 24-WQFN (4x4); Supplier Part Number 1: LMK00105SQ/NOPBCT-ND
footprint LMK00105SQ (QFN, 24-Leads, Body 4,00x4,00mm, Pitch 0,50mm, Thermal Pad 2,60x2,60mm, IPC Medium Density)
pins: 1 GND, 2 Vddo, 3 CLKout0, 4 GND, 5 CLKout1, 6 Vddo, 7 GND, 8 Vdd, 9 OSCin, 10 OSCout, 11 GND, 12 GND, 13 CLKout2, 14 Vddo, 15 CLKout3, 16 GND, 17 CLKout4, 18 Vddo, 19 GND, 20 CLKin*, 21 CLKin, 22 SEL, 23 Vdd, 24 OE, 25 GND

## LMK00105SQ
designator IC?
Manufacturer Part Number 1: LMK00105SQ/NOPB; Manufacturer: Texas Instruments; Voltage - Supply: 2.375 V ~ 3.45 V; Frequency - Max: 200MHz; Differential - Input:Output: Yes/No; Number of Circuits: 1; Output: LVCMOS; Input: HCSL, LVCMOS, LVDS, LVPECL, LVTTL, SSTL, Crystal; Ratio - Input:Output: 2:5; Supplier 1: Digi-Key; Operating Temperature: -40°C ~ 85°C; RoHS: RoHS Compliant; Category: Integrated Circuits (ICs); Type: Fanout Buffer (Distribution), Multiplexer, Translator; Packaging: Cut Tape (CT); Supplier Device Package: 24-WQFN (4x4); Mounting Type: Surface Mount; Package / Case: 24-WFQFN Exposed Pad; Supplier Part Number 1: LMK00105SQ/NOPBCT-ND
pins: 1 GND, 2 Vddo, 3 CLKout0, 4 GND, 5 CLKout1, 6 Vddo, 7 GND, 8 Vdd, 9 OSCin, 10 OSCout, 11 GND, 12 GND, 13 CLKout2, 14 Vddo, 15 CLKout3, 16 GND, 17 CLKout4, 18 Vddo, 19 GND, 20 CLKin*, 21 CLKin, 22 SEL, 23 Vdd, 24 OE, 25 GND

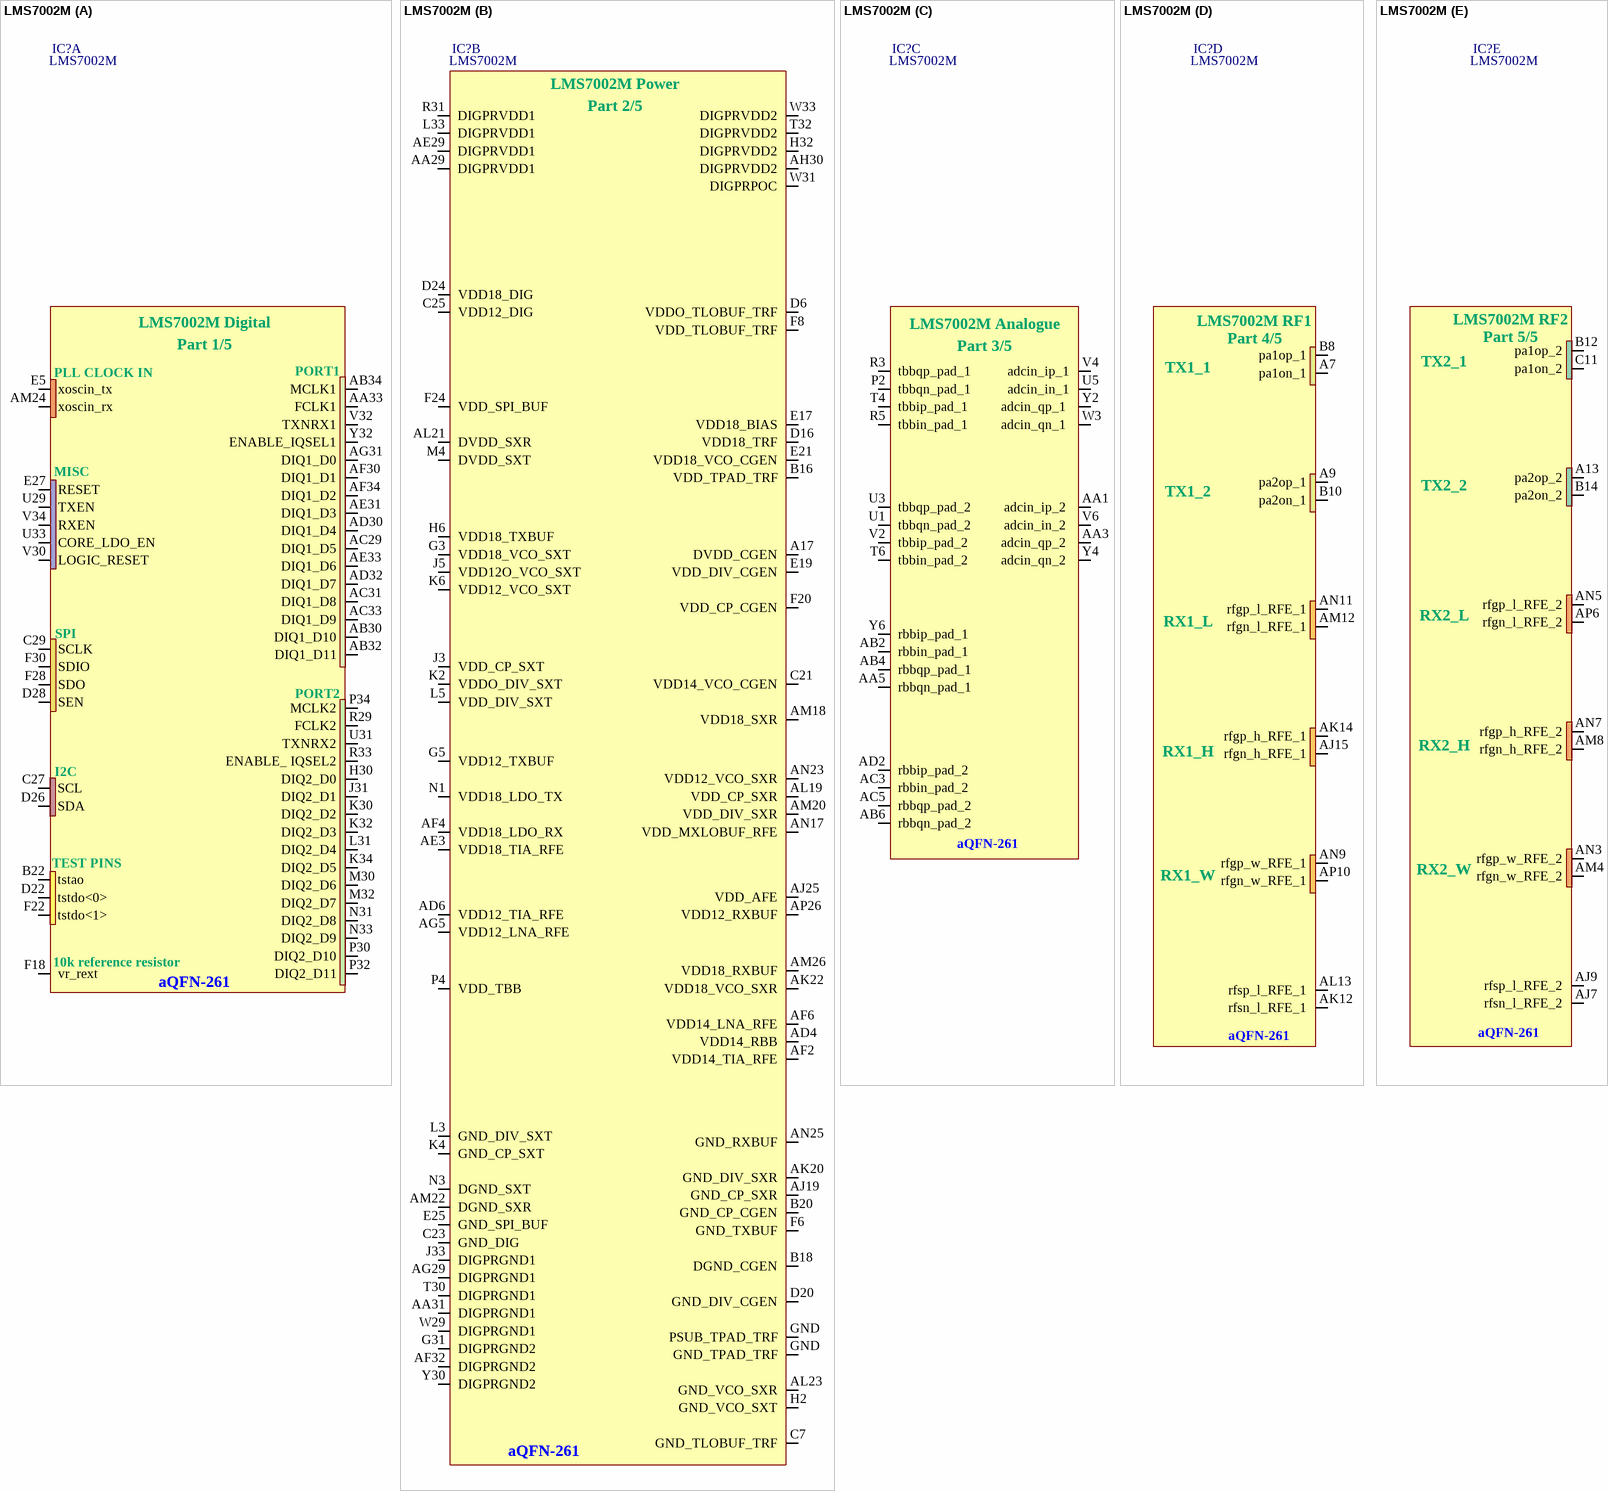
[diagram p30: symbol LMS7002M]

## LMS7002M
designator IC?
Manufacturer: Lime Microsystems; Part Description: IC FPRF Transceiver LMS7002M; 261 pin aQFN; Supplier 1: Lime Microsystems; Supplier Part Number 1: LMS7002M; Manufacturer Part Number 1: LMS7002M
footprint LMS7002M
part A pins: AA33 FCLK1, AB30 DIQ1_D10, AB32 DIQ1_D11, AB34 MCLK1, AC29 DIQ1_D5, AC31 DIQ1_D8, AC33 DIQ1_D9, AD30 DIQ1_D4, AD32 DIQ1_D7, AE31 DIQ1_D3, AE33 DIQ1_D6, AF30 DIQ1_D1, AF34 DIQ1_D2, AG31 DIQ1_D0, AM24 xoscin_rx, B22 tstao, C27 SCL, C29 SCLK, D22 tstdo<0>, D26 SDA, D28 SEN, E5 xoscin_tx, E27 RESET, F18 vr_rext, F22 tstdo<1>, F28 SDO, F30 SDIO, H30 DIQ2_D0, J31 DIQ2_D1, K30 DIQ2_D2, K32 DIQ2_D3, K34 DIQ2_D5, L31 DIQ2_D4, M30 DIQ2_D6, M32 DIQ2_D7, N31 DIQ2_D8, N33 DIQ2_D9, P30 DIQ2_D10, P32 DIQ2_D11, P34 MCLK2, R29 FCLK2, R33 ENABLE_ IQSEL2, U29 TXEN, U31 TXNRX2, U33 CORE_LDO_EN, V30 LOGIC_RESET, V32 TXNRX1, V34 RXEN, Y32 ENABLE_IQSEL1
part B pins: A17 DVDD_CGEN, AA29 DIGPRVDD1, AA31 DIGPRGND1, AD4 VDD14_RBB, AD6 VDD12_TIA_RFE, AE3 VDD18_TIA_RFE, AE29 DIGPRVDD1, AF2 VDD14_TIA_RFE, AF4 VDD18_LDO_RX, AF6 VDD14_LNA_RFE, AF32 DIGPRGND2, AG5 VDD12_LNA_RFE, AG29 DIGPRGND1, AH30 DIGPRVDD2, AJ19 GND_CP_SXR, AJ25 VDD_AFE, AK20 GND_DIV_SXR, AK22 VDD18_VCO_SXR, AL19 VDD_CP_SXR, AL21 DVDD_SXR, AL23 GND_VCO_SXR, AM18 VDD18_SXR, AM20 VDD_DIV_SXR, AM22 DGND_SXR, AM26 VDD18_RXBUF, AN17 VDD_MXLOBUF_RFE, AN23 VDD12_VCO_SXR, AN25 GND_RXBUF, AP26 VDD12_RXBUF, B16 VDD_TPAD_TRF, B18 DGND_CGEN, B20 GND_CP_CGEN, C7 GND_TLOBUF_TRF, C21 VDD14_VCO_CGEN, C23 GND_DIG, C25 VDD12_DIG, D6 VDDO_TLOBUF_TRF, D16 VDD18_TRF, D20 GND_DIV_CGEN, D24 VDD18_DIG, E17 VDD18_BIAS, E19 VDD_DIV_CGEN, E21 VDD18_VCO_CGEN, E25 GND_SPI_BUF, F6 GND_TXBUF, F8 VDD_TLOBUF_TRF, F20 VDD_CP_CGEN, F24 VDD_SPI_BUF, G3 VDD18_VCO_SXT, G5 VDD12_TXBUF, G31 DIGPRGND2, GND PSUB_TPAD_TRF, GND GND_TPAD_TRF, H2 GND_VCO_SXT, H6 VDD18_TXBUF, H32 DIGPRVDD2, J3 VDD_CP_SXT, J5 VDD12O_VCO_SXT, J33 DIGPRGND1, K2 VDDO_DIV_SXT, K4 GND_CP_SXT, K6 VDD12_VCO_SXT, L3 GND_DIV_SXT, L5 VDD_DIV_SXT, L33 DIGPRVDD1, M4 DVDD_SXT, N1 VDD18_LDO_TX, N3 DGND_SXT, P4 VDD_TBB, R31 DIGPRVDD1, T30 DIGPRGND1, T32 DIGPRVDD2, W29 DIGPRGND1, W31 DIGPRPOC, W33 DIGPRVDD2, Y30 DIGPRGND2
part C pins: AA1 adcin_ip_2 , AA3 adcin_qp_2 , AA5 rbbqn_pad_1 , AB2 rbbin_pad_1, AB4 rbbqp_pad_1, AB6 rbbqn_pad_2 , AC3 rbbin_pad_2, AC5 rbbqp_pad_2 , AD2 rbbip_pad_2 , P2 tbbqn_pad_1, R3 tbbqp_pad_1, R5 tbbin_pad_1, T4 tbbip_pad_1, T6 tbbin_pad_2, U1 tbbqn_pad_2, U3 tbbqp_pad_2, U5 adcin_in_1, V2 tbbip_pad_2, V4 adcin_ip_1, V6 adcin_in_2 , W3 adcin_qn_1 , Y2 adcin_qp_1 , Y4 adcin_qn_2 , Y6 rbbip_pad_1 
part D pins: A7 pa1on_1, A9 pa2op_1, AJ15 rfgn_h_RFE_1, AK12 rfsn_l_RFE_1, AK14 rfgp_h_RFE_1, AL13 rfsp_l_RFE_1, AM12 rfgn_l_RFE_1, AN9 rfgp_w_RFE_1, AN11 rfgp_l_RFE_1, AP10 rfgn_w_RFE_1, B8 pa1op_1, B10 pa2on_1
part E pins: A13 pa2op_2, AJ7 rfsn_l_RFE_2, AJ9 rfsp_l_RFE_2, AM4 rfgn_w_RFE_2, AM8 rfgn_h_RFE_2, AN3 rfgp_w_RFE_2, AN5 rfgp_l_RFE_2, AN7 rfgp_h_RFE_2, AP6 rfgn_l_RFE_2, B12 pa1op_2, B14 pa2on_2, C11 pa1on_2
part A text: LMS7002M Digital; Part 1/5; PLL CLOCK IN; PORT1; MISC; SPI; PORT2; I2C; TEST PINS; 10k reference resistor; aQFN-261
part B text: LMS7002M Power; Part 2/5; aQFN-261
part C text: LMS7002M Analogue; Part 3/5; aQFN-261
part D text: LMS7002M RF1; Part 4/5; TX1_1; TX1_2; RX1_L; RX1_H; RX1_W; aQFN-261
part E text: LMS7002M RF2; Part 5/5; TX2_1; TX2_2; RX2_L; RX2_H; RX2_W; aQFN-261

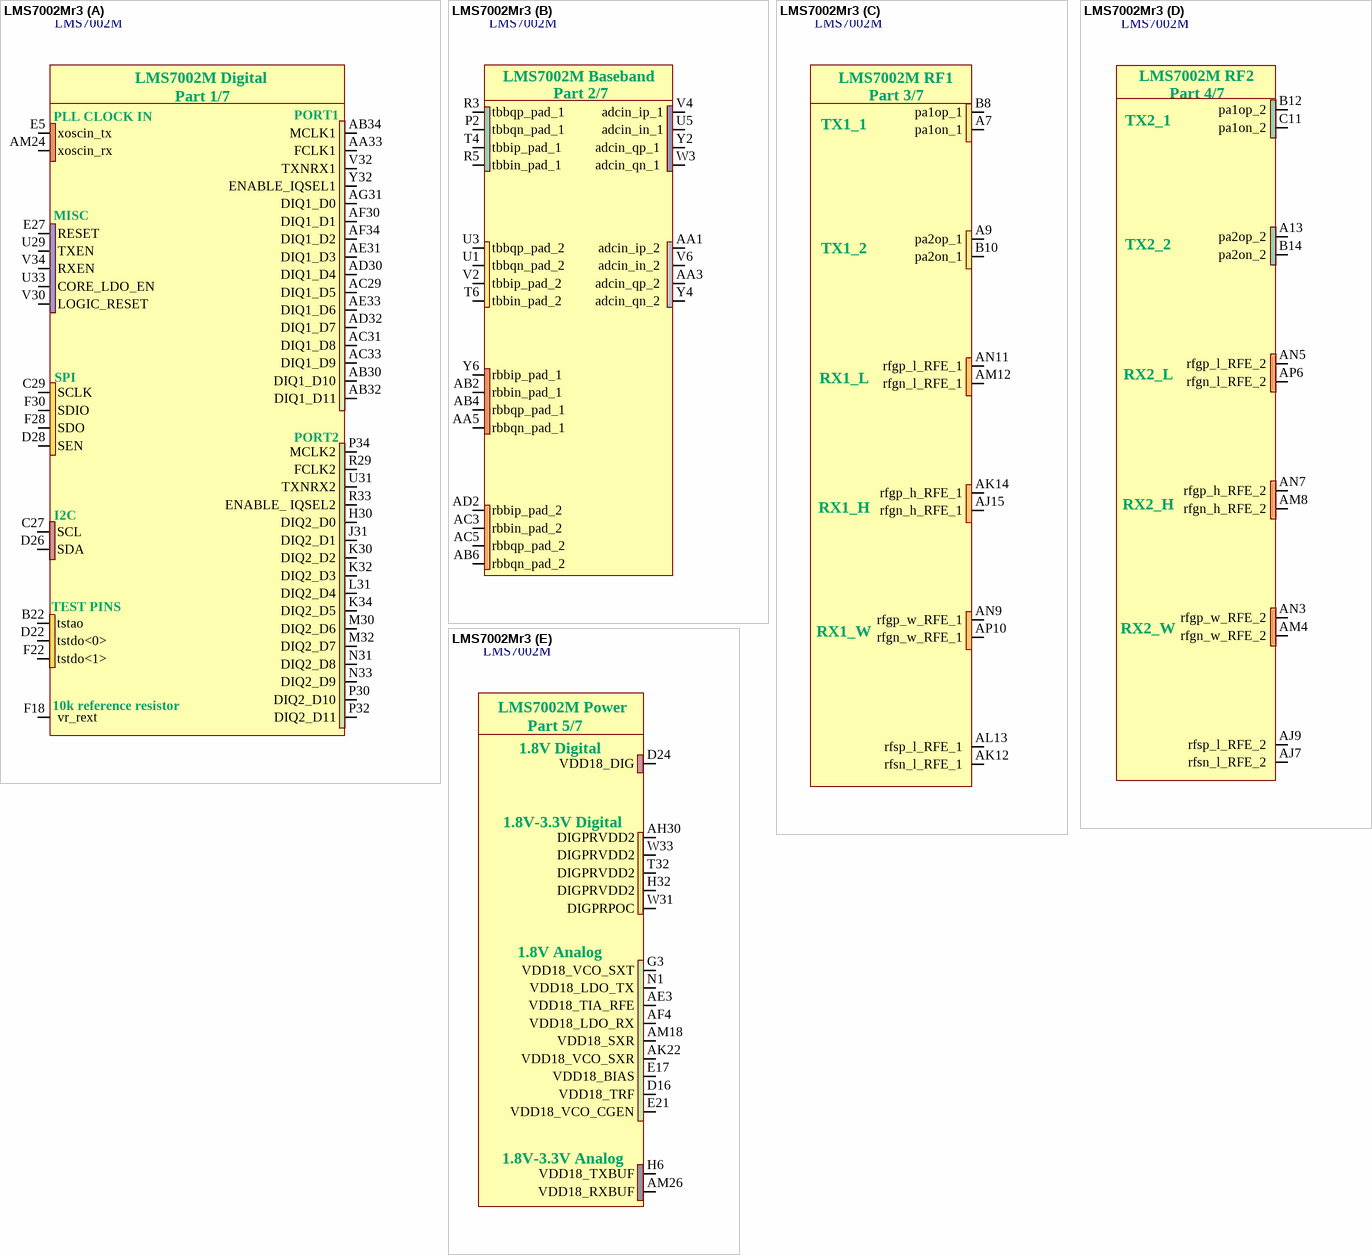
[diagram p31: symbol LMS7002Mr3]

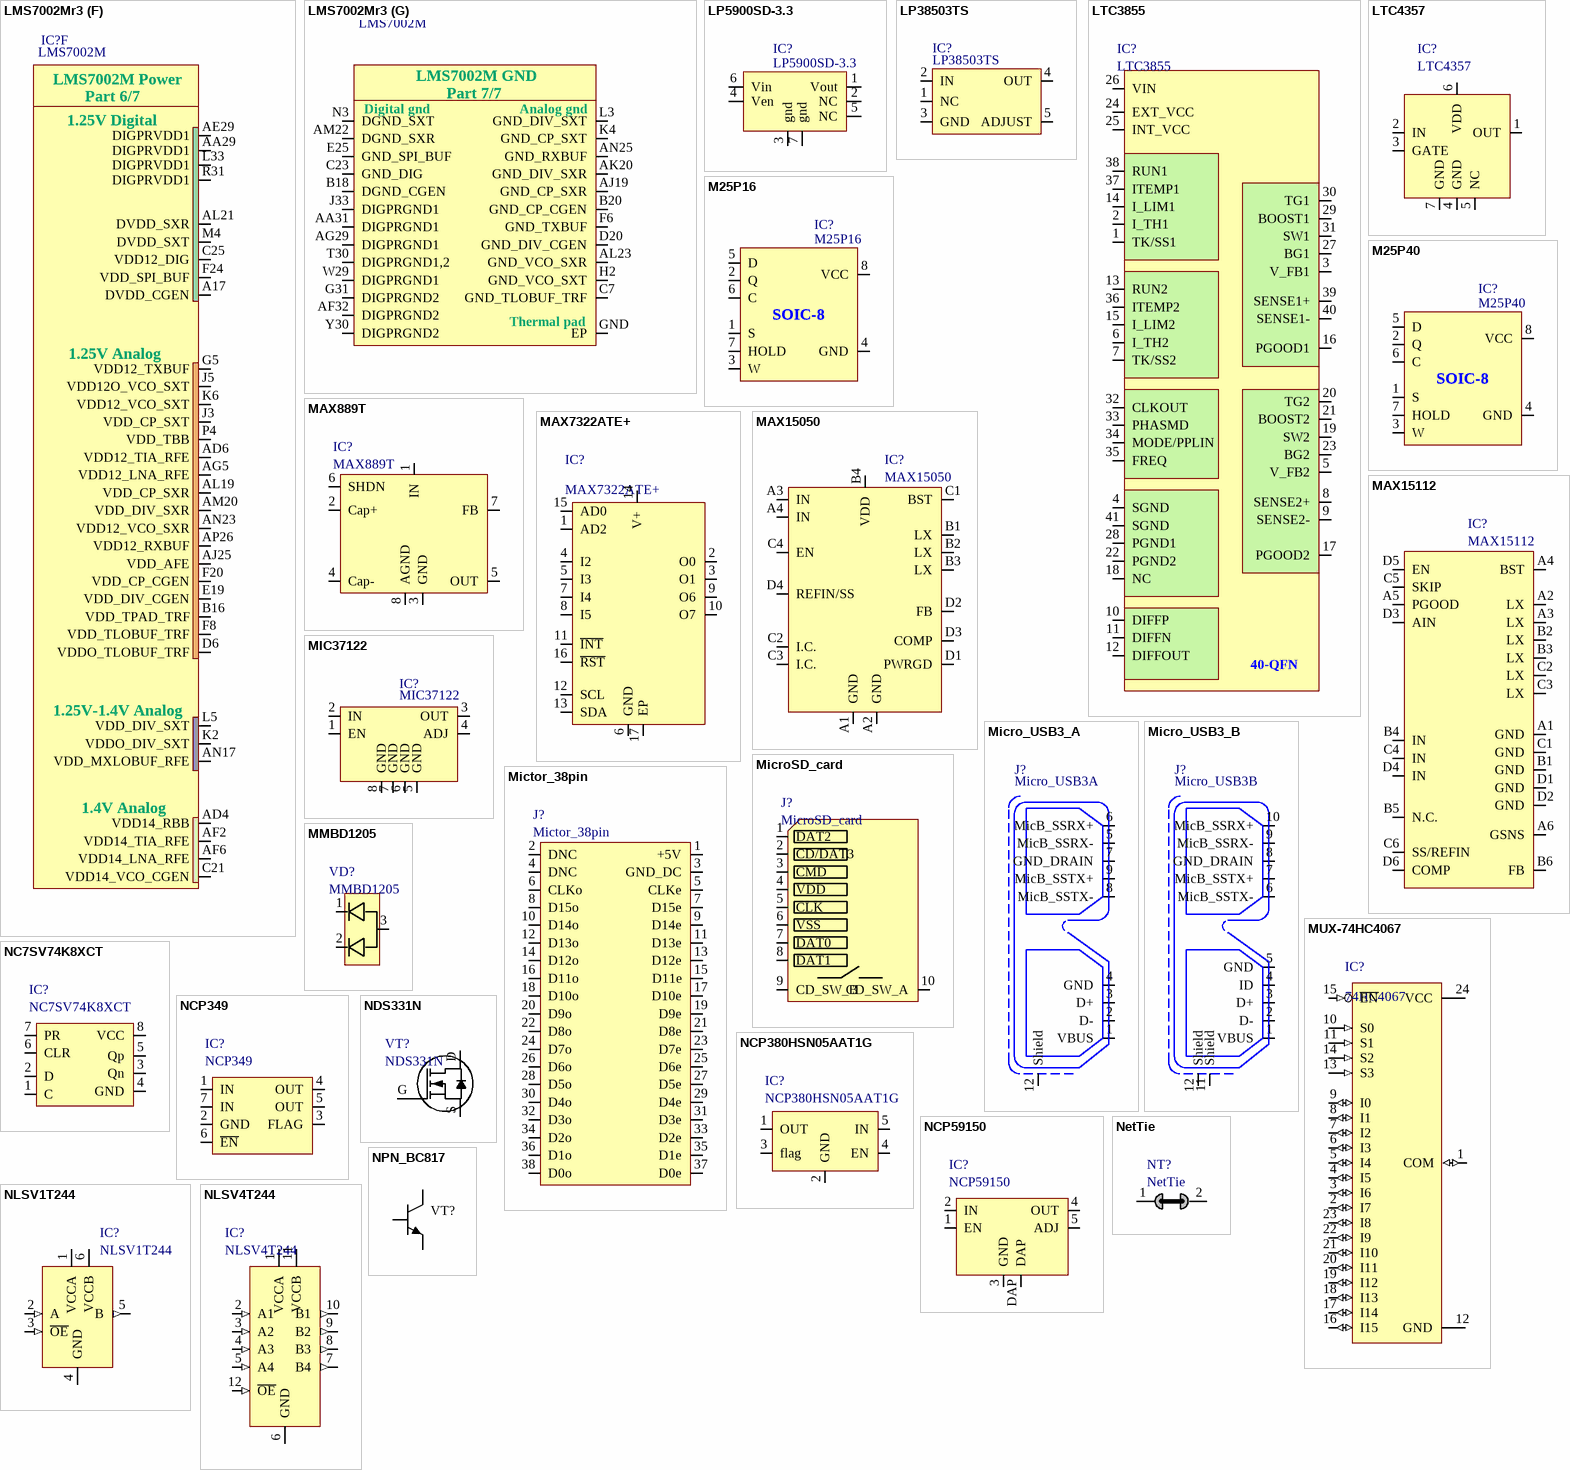
[diagram p32: symbols LMS7002Mr3 to NPN_BC817]